# Altium integrated library Xilinx XC4000.IntLib: 294 symbols (part 21 of 21)
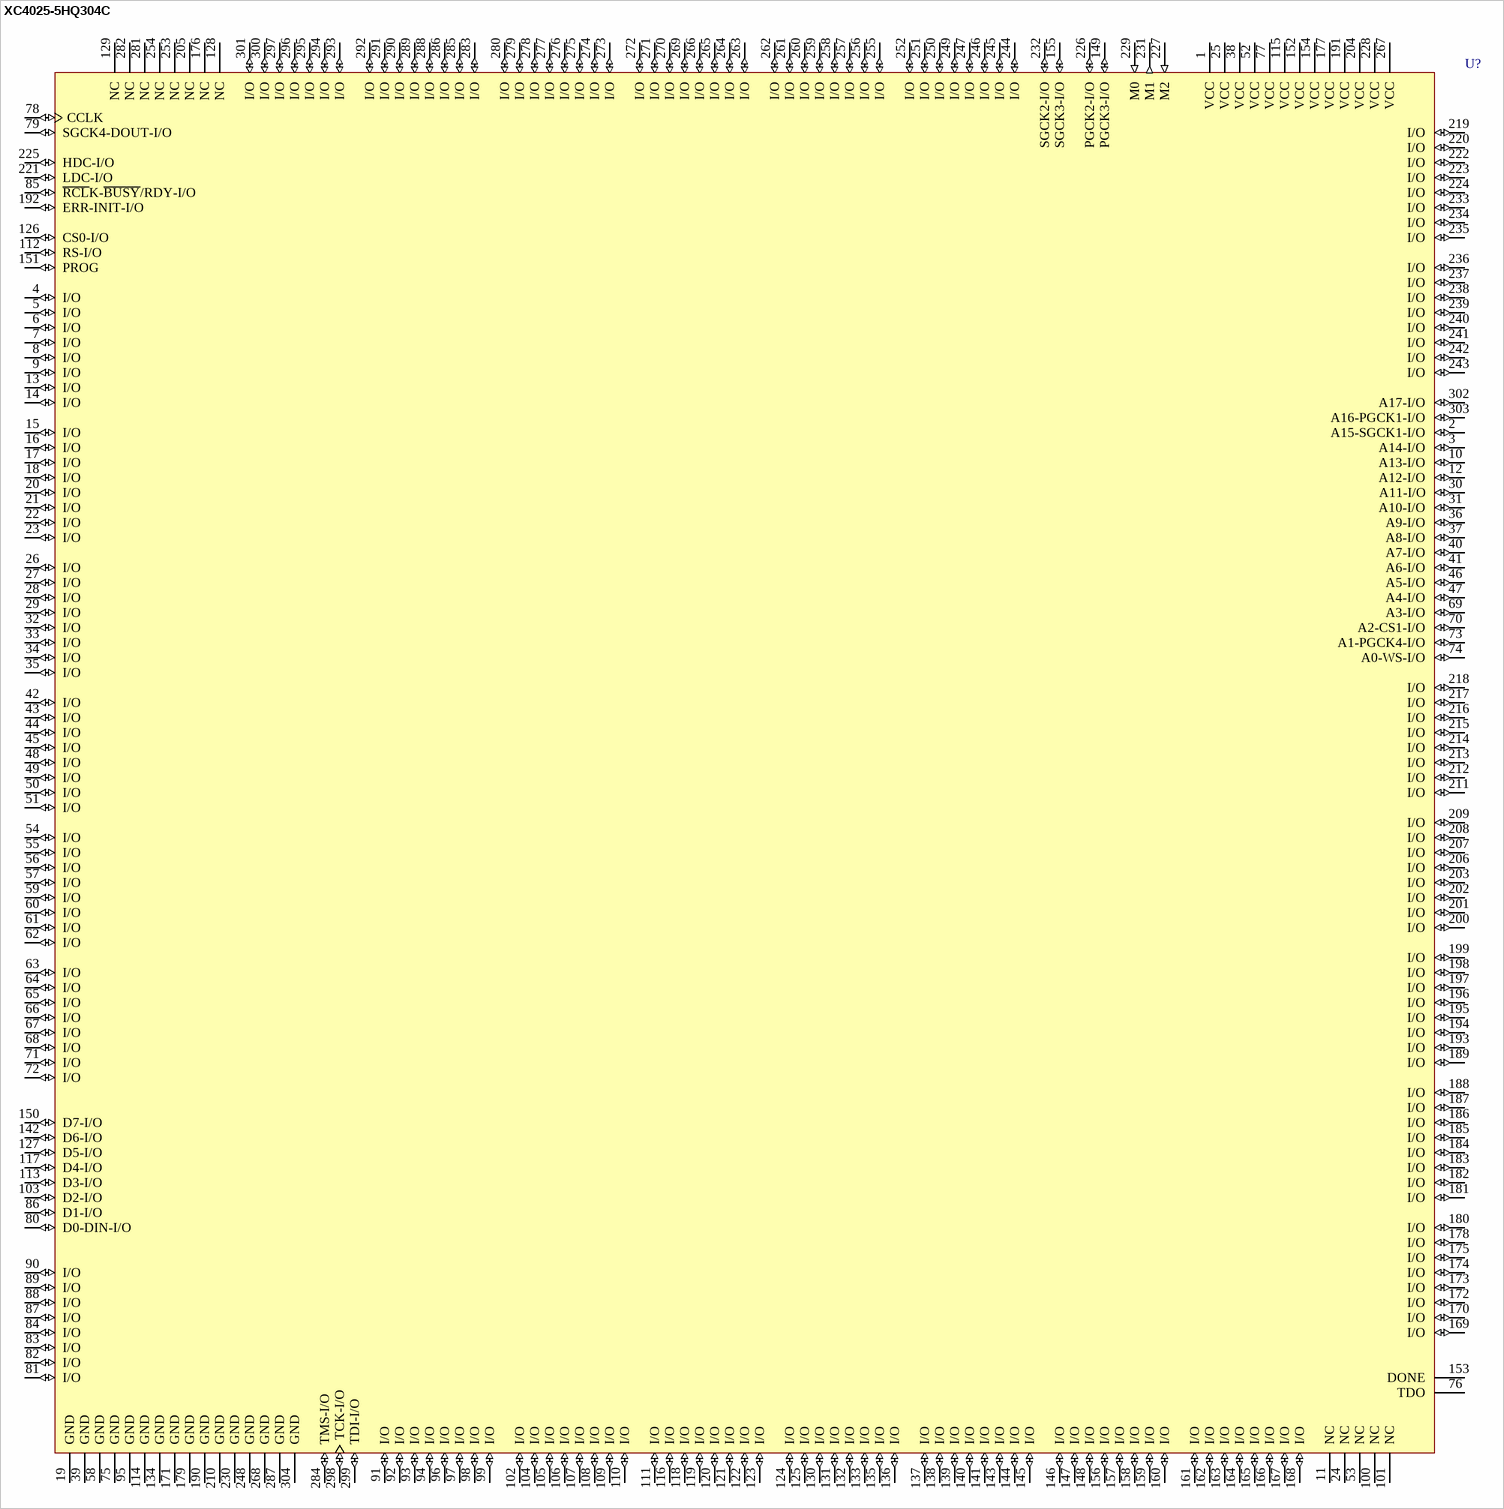
[diagram p249: symbol XC4025-5HQ304C]

## XC4025-5HQ304C
designator U?
Logic Cell Array, with 255 I/O Pins, 304-Pin HQFP, Commercial Grade; ComponentAvailability: Not for New Design; Published: 8-Jun-2000; LatestRevisionDate: 13-Apr-2006; LatestRevisionNote: IPC-7351 Footprint Added.; DatasheetVersion: 1994; PackageVersion: ver1.1, Oct-2002; PackageReference: HQ304; Publisher: Altium Limited; PackageDescription: 304-Pin Heat Sink Quad Flat Pack (HQ304); Code_JEDEC: MO-143-JA; ComponentLink1Description: Manufacturer Link; ComponentLink1URL: http://www.xilinx.com/; ComponentLink2Description: Datasheet; ComponentLink2URL: http://direct.xilinx.com/bvdocs/publications/4000.pdf
footprint HQ304_N (Shrink QFP, 304-Leads, Body 40x40mm, Pitch 0.5mm, IPC Medium Density)
footprint HQ304_L (Shrink QFP, 304-Leads, Body 40x40mm, Pitch 0.5mm, IPC High Density)
footprint HQ304_M (Shrink QFP, 304-Leads, Body 40x40mm, Pitch 0.5mm, IPC Low Density)
3D model XC4025-HQ304 (304-Pin Heat Sink Quad Flat Pack (HQ304))
pins: 1 VCC (power), 2 A15-SGCK1-I/O (io), 3 A14-I/O (io), 4 I/O (io), 5 I/O (io), 6 I/O (io), 7 I/O (io), 8 I/O (io), 9 I/O (io), 10 A13-I/O (io), 11 NC, 12 A12-I/O (io), 13 I/O (io), 14 I/O (io), 15 I/O (io), 16 I/O (io), 17 I/O (io), 18 I/O (io), 19 GND (power), 20 I/O (io), 21 I/O (io), 22 I/O (io), 23 I/O (io), 24 NC, 25 VCC (power), 26 I/O (io), 27 I/O (io), 28 I/O (io), 29 I/O (io), 30 A11-I/O (io), 31 A10-I/O (io), 32 I/O (io), 33 I/O (io), 34 I/O (io), 35 I/O (io), 36 A9-I/O (io), 37 A8-I/O (io), 38 VCC (power), 39 GND (power), 40 A7-I/O (io), 41 A6-I/O (io), 42 I/O (io), 43 I/O (io), 44 I/O (io), 45 I/O (io), 46 A5-I/O (io), 47 A4-I/O (io), 48 I/O (io), 49 I/O (io), 50 I/O (io), 51 I/O (io), 52 VCC (power), 53 NC, 54 I/O (io), 55 I/O (io), 56 I/O (io), 57 I/O (io), 58 GND (power), 59 I/O (io), 60 I/O (io), 61 I/O (io), 62 I/O (io), 63 I/O (io), 64 I/O (io), 65 I/O (io), 66 I/O (io), 67 I/O (io), 68 I/O (io), 69 A3-I/O (io), 70 A2-CS1-I/O (io), 71 I/O (io), 72 I/O (io), 73 A1-PGCK4-I/O (io), 74 A0-WS-I/O (io), 75 GND (power), 76 TDO, 77 VCC (power), 78 CCLK (io), 79 SGCK4-DOUT-I/O (io), 80 D0-DIN-I/O (io), 81 I/O (io), 82 I/O (io), 83 I/O (io), 84 I/O (io), 85 ~{RCL}K-~{BUSY}/RDY-I/O (io), 86 D1-I/O (io), 87 I/O (io), 88 I/O (io), 89 I/O (io), 90 I/O (io), 91 I/O (io), 92 I/O (io), 93 I/O (io), 94 I/O (io), 95 GND (power), 96 I/O (io), 97 I/O (io), 98 I/O (io), 99 I/O (io), 100 NC, 101 NC, 102 I/O (io), 103 D2-I/O (io), 104 I/O (io), 105 I/O (io), 106 I/O (io), 107 I/O (io), 108 I/O (io), 109 I/O (io), 110 I/O (io), 111 I/O (io), 112 RS-I/O (io), 113 D3-I/O (io), 114 GND (power), 115 VCC (power), 116 I/O (io), 117 D4-I/O (io), 118 I/O (io), 119 I/O (io), 120 I/O (io), 121 I/O (io), 122 I/O (io), 123 I/O (io), 124 I/O (io), 125 I/O (io), 126 CS0-I/O (io), 127 D5-I/O (io), 128 NC, 129 NC, 130 I/O (io), 131 I/O (io), 132 I/O (io), 133 I/O (io), 134 GND (power), 135 I/O (io), 136 I/O (io), 137 I/O (io), 138 I/O (io), 139 I/O (io), 140 I/O (io), 141 I/O (io), 142 D6-I/O (io), 143 I/O (io), 144 I/O (io), 145 I/O (io), 146 I/O (io), 147 I/O (io), 148 I/O (io), 149 PGCK3-I/O (io), 150 D7-I/O (io), 151 PROG (io), 152 VCC (power), 153 DONE, 154 VCC (power), 155 SGCK3-I/O (io), 156 I/O (io), 157 I/O (io), 158 I/O (io), 159 I/O (io), 160 I/O (io), 161 I/O (io), 162 I/O (io), 163 I/O (io), 164 I/O (io), 165 I/O (io), 166 I/O (io), 167 I/O (io), 168 I/O (io), 169 I/O (io), 170 I/O (io), 171 GND (power), 172 I/O (io), 173 I/O (io), 174 I/O (io), 175 I/O (io), 176 NC, 177 VCC (power), 178 I/O (io), 179 GND (power), 180 I/O (io), 181 I/O (io), 182 I/O (io), 183 I/O (io), 184 I/O (io), 185 I/O (io), 186 I/O (io), 187 I/O (io), 188 I/O (io), 189 I/O (io), 190 GND (power), 191 VCC (power), 192 ERR-INIT-I/O (io), 193 I/O (io), 194 I/O (io), 195 I/O (io), 196 I/O (io), 197 I/O (io), 198 I/O (io), 199 I/O (io), 200 I/O (io), 201 I/O (io), 202 I/O (io), 203 I/O (io), 204 VCC (power), 205 NC, 206 I/O (io), 207 I/O (io), 208 I/O (io), 209 I/O (io), 210 GND (power), 211 I/O (io), 212 I/O (io), 213 I/O (io), 214 I/O (io), 215 I/O (io), 216 I/O (io), 217 I/O (io), 218 I/O (io), 219 I/O (io), 220 I/O (io), 221 LDC-I/O (io), 222 I/O (io), 223 I/O (io), 224 I/O (io), 225 HDC-I/O (io), 226 PGCK2-I/O (io), 227 M2 (in), 228 VCC (power), 229 M0 (in), 230 GND (power), 231 M1 (out), 232 SGCK2-I/O (io), 233 I/O (io), 234 I/O (io), 235 I/O (io), 236 I/O (io), 237 I/O (io), 238 I/O (io), 239 I/O (io), 240 I/O (io), 241 I/O (io), 242 I/O (io), 243 I/O (io), 244 I/O (io), 245 I/O (io), 246 I/O (io), 247 I/O (io), 248 GND (power), 249 I/O (io), 250 I/O (io), 251 I/O (io), 252 I/O (io), 253 NC, 254 NC, 255 I/O (io), 256 I/O (io), 257 I/O (io), 258 I/O (io), 259 I/O (io), 260 I/O (io), 261 I/O (io), 262 I/O (io), 263 I/O (io), 264 I/O (io), 265 I/O (io), 266 I/O (io), 267 VCC (power), 268 GND (power), 269 I/O (io), 270 I/O (io), 271 I/O (io), 272 I/O (io), 273 I/O (io), 274 I/O (io), 275 I/O (io), 276 I/O (io), 277 I/O (io), 278 I/O (io), 279 I/O (io), 280 I/O (io), 281 NC, 282 NC, 283 I/O (io), 284 TMS-I/O (io), 285 I/O (io), 286 I/O (io), 287 GND (power), 288 I/O (io), 289 I/O (io), 290 I/O (io), 291 I/O (io), 292 I/O (io), 293 I/O (io), 294 I/O (io), 295 I/O (io), 296 I/O (io), 297 I/O (io), 298 TCK-I/O (io), 299 TDI-I/O (io), 300 I/O (io), 301 I/O (io), 302 A17-I/O (io), 303 A16-PGCK1-I/O (io), 304 GND (power)

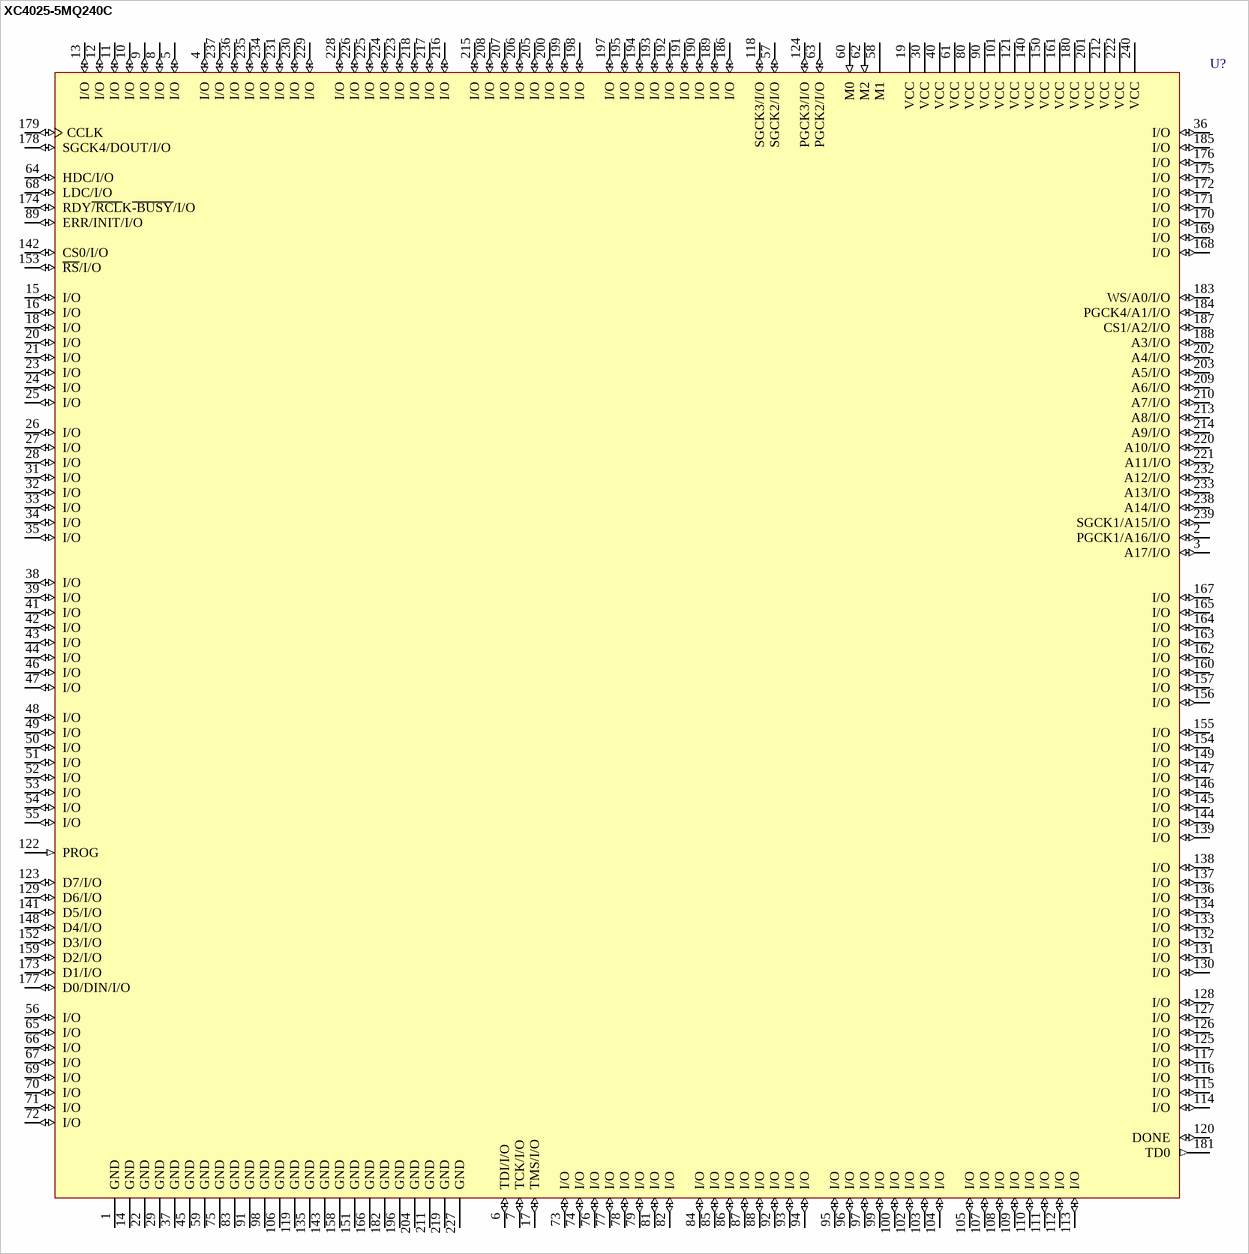
[diagram p221: symbol XC4025-5MQ240C]

## XC4025-5MQ240C
designator U?
Logic Cell Array, with 193 I/O Pins, 240-Pin MQFP, Commercial Grade; ComponentAvailability: Not for New Design; Published: 8-Jun-2000; LatestRevisionDate: 13-Apr-2006; LatestRevisionNote: IPC-7351 Footprint Added.; DatasheetVersion: 1994; PackageVersion: 1994; PackageReference: MQ240; Publisher: Altium Limited; PackageDescription: 240-Pin Metal Quad Flat Pack (MQ240); ComponentLink1Description: Manufacturer Link; ComponentLink1URL: http://www.xilinx.com/; ComponentLink2Description: Datasheet; ComponentLink2URL: http://direct.xilinx.com/bvdocs/publications/4000.pdf
footprint MQ240_N (Shrink QFP, 240-Leads, Body 31.6x31.6mm, Pitch 0.5mm, IPC Medium Density)
footprint MQ240_L (Shrink QFP, 240-Leads, Body 31.6x31.6mm, Pitch 0.5mm, IPC High Density)
footprint MQ240_M (Shrink QFP, 240-Leads, Body 31.6x31.6mm, Pitch 0.5mm, IPC Low Density)
3D model XC4025-MQ240 (240-Pin Metal Quad Flat Pack (MQ240))
pins: 1 GND (power), 2 PGCK1/A16/I/O (io), 3 A17/I/O (io), 4 I/O (io), 5 I/O (io), 6 TDI/I/O (io), 7 TCK/I/O (io), 8 I/O (io), 9 I/O (io), 10 I/O (io), 11 I/O (io), 12 I/O (io), 13 I/O (io), 14 GND (power), 15 I/O (io), 16 I/O (io), 17 TMS/I/O (io), 18 I/O (io), 19 VCC (power), 20 I/O (io), 21 I/O (io), 22 GND (power), 23 I/O (io), 24 I/O (io), 25 I/O (io), 26 I/O (io), 27 I/O (io), 28 I/O (io), 29 GND (power), 30 VCC (power), 31 I/O (io), 32 I/O (io), 33 I/O (io), 34 I/O (io), 35 I/O (io), 36 I/O (io), 37 GND (power), 38 I/O (io), 39 I/O (io), 40 VCC (power), 41 I/O (io), 42 I/O (io), 43 I/O (io), 44 I/O (io), 45 GND (power), 46 I/O (io), 47 I/O (io), 48 I/O (io), 49 I/O (io), 50 I/O (io), 51 I/O (io), 52 I/O (io), 53 I/O (io), 54 I/O (io), 55 I/O (io), 56 I/O (io), 57 SGCK2/I/O (io), 58 M1 (hiz), 59 GND (power), 60 M0 (in), 61 VCC (power), 62 M2 (in), 63 PGCK2/I/O (io), 64 HDC/I/O (io), 65 I/O (io), 66 I/O (io), 67 I/O (io), 68 LDC/I/O (io), 69 I/O (io), 70 I/O (io), 71 I/O (io), 72 I/O (io), 73 I/O (io), 74 I/O (io), 75 GND (power), 76 I/O (io), 77 I/O (io), 78 I/O (io), 79 I/O (io), 80 VCC (power), 81 I/O (io), 82 I/O (io), 83 GND (power), 84 I/O (io), 85 I/O (io), 86 I/O (io), 87 I/O (io), 88 I/O (io), 89 ERR/INIT/I/O (io), 90 VCC (power), 91 GND (power), 92 I/O (io), 93 I/O (io), 94 I/O (io), 95 I/O (io), 96 I/O (io), 97 I/O (io), 98 GND (power), 99 I/O (io), 100 I/O (io), 101 VCC (power), 102 I/O (io), 103 I/O (io), 104 I/O (io), 105 I/O (io), 106 GND (power), 107 I/O (io), 108 I/O (io), 109 I/O (io), 110 I/O (io), 111 I/O (io), 112 I/O (io), 113 I/O (io), 114 I/O (io), 115 I/O (io), 116 I/O (io), 117 I/O (io), 118 SGCK3/I/O (io), 119 GND (power), 120 DONE (io), 121 VCC (power), 122 PROG (in), 123 D7/I/O (io), 124 PGCK3/I/O (io), 125 I/O (io), 126 I/O (io), 127 I/O (io), 128 I/O (io), 129 D6/I/O (io), 130 I/O (io), 131 I/O (io), 132 I/O (io), 133 I/O (io), 134 I/O (io), 135 GND (power), 136 I/O (io), 137 I/O (io), 138 I/O (io), 139 I/O (io), 140 VCC (power), 141 D5/I/O (io), 142 CS0/I/O (io), 143 GND (power), 144 I/O (io), 145 I/O (io), 146 I/O (io), 147 I/O (io), 148 D4/I/O (io), 149 I/O (io), 150 VCC (power), 151 GND (power), 152 D3/I/O (io), 153 ~{RS}/I/O (io), 154 I/O (io), 155 I/O (io), 156 I/O (io), 157 I/O (io), 158 GND (power), 159 D2/I/O (io), 160 I/O (io), 161 VCC (power), 162 I/O (io), 163 I/O (io), 164 I/O (io), 165 I/O (io), 166 GND (power), 167 I/O (io), 168 I/O (io), 169 I/O (io), 170 I/O (io), 171 I/O (io), 172 I/O (io), 173 D1/I/O (io), 174 RDY~{/RCL}K~{-BUSY}/I/O (io), 175 I/O (io), 176 I/O (io), 177 D0/DIN/I/O (io), 178 SGCK4/DOUT/I/O (io), 179 CCLK (io), 180 VCC (power), 181 TD0 (out), 182 GND (power), 183 WS/A0/I/O (io), 184 PGCK4/A1/I/O (io), 185 I/O (io), 186 I/O (io), 187 CS1/A2/I/O (io), 188 A3/I/O (io), 189 I/O (io), 190 I/O (io), 191 I/O (io), 192 I/O (io), 193 I/O (io), 194 I/O (io), 195 I/O (io), 196 GND (power), 197 I/O (io), 198 I/O (io), 199 I/O (io), 200 I/O (io), 201 VCC (power), 202 A4/I/O (io), 203 A5/I/O (io), 204 GND (power), 205 I/O (io), 206 I/O (io), 207 I/O (io), 208 I/O (io), 209 A6/I/O (io), 210 A7/I/O (io), 211 GND (power), 212 VCC (power), 213 A8/I/O (io), 214 A9/I/O (io), 215 I/O (io), 216 I/O (io), 217 I/O (io), 218 I/O (io), 219 GND (power), 220 A10/I/O (io), 221 A11/I/O (io), 222 VCC (power), 223 I/O (io), 224 I/O (io), 225 I/O (io), 226 I/O (io), 227 GND (power), 228 I/O (io), 229 I/O (io), 230 I/O (io), 231 I/O (io), 232 A12/I/O (io), 233 A13/I/O (io), 234 I/O (io), 235 I/O (io), 236 I/O (io), 237 I/O (io), 238 A14/I/O (io), 239 SGCK1/A15/I/O (io), 240 VCC (power)

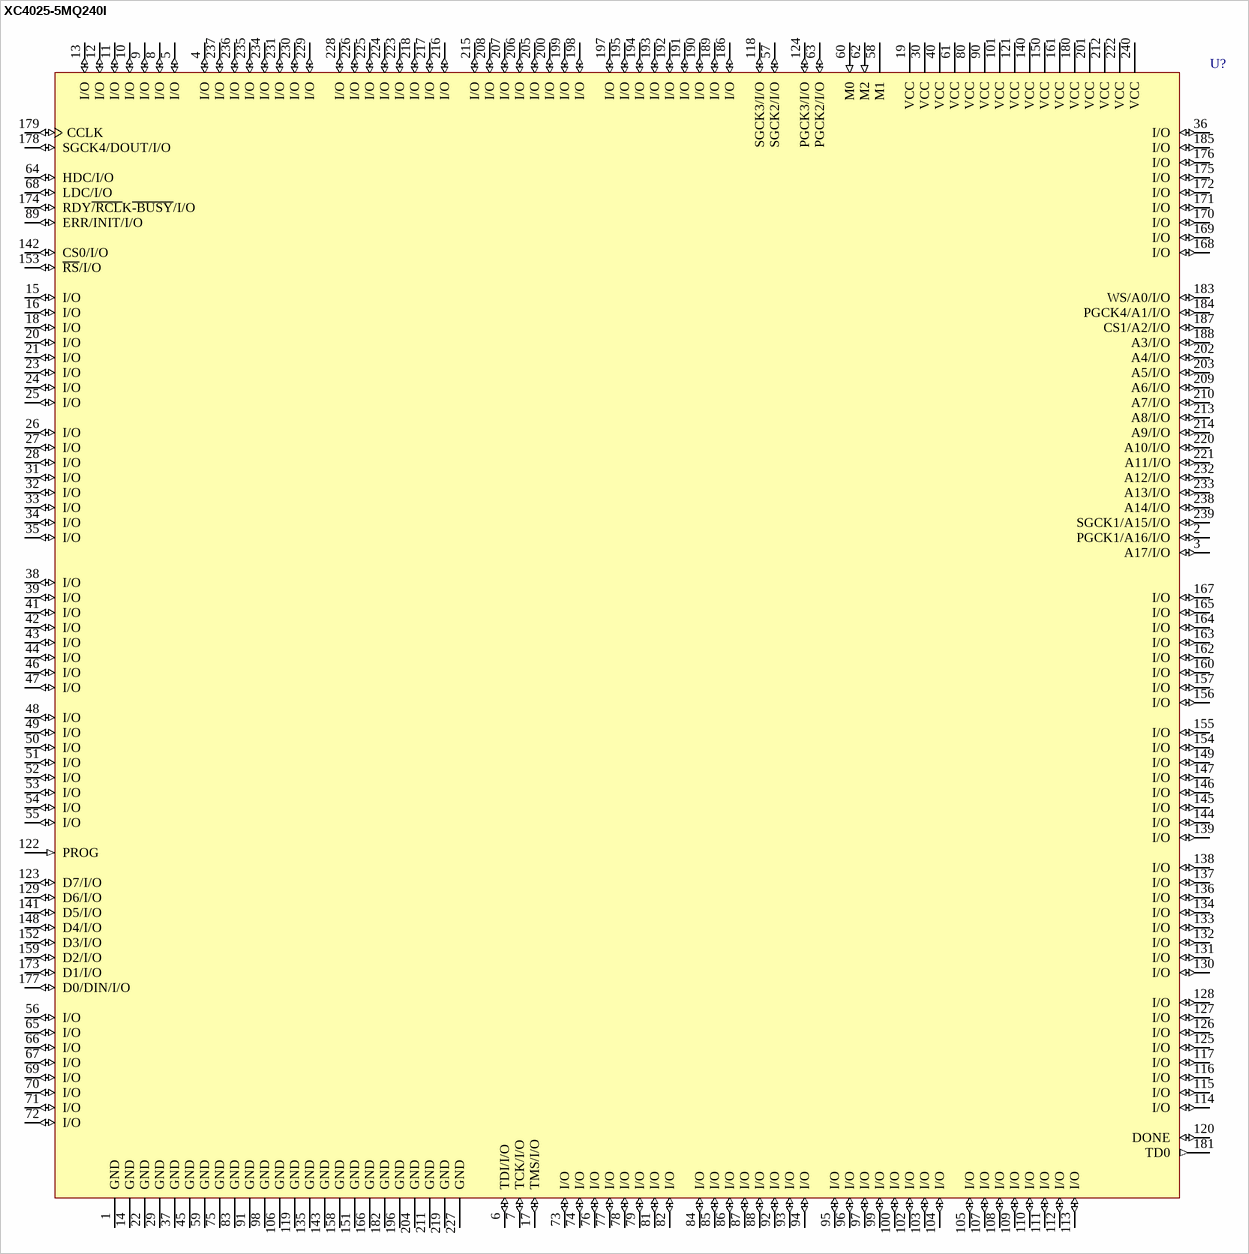
[diagram p222: symbol XC4025-5MQ240I]

## XC4025-5MQ240I
designator U?
Logic Cell Array, with 193 I/O Pins, 240-Pin MQFP, Industrial Grade; ComponentAvailability: Not for New Design; Published: 8-Jun-2000; LatestRevisionDate: 13-Apr-2006; LatestRevisionNote: IPC-7351 Footprint Added.; DatasheetVersion: 1994; PackageVersion: 1994; PackageReference: MQ240; Publisher: Altium Limited; PackageDescription: 240-Pin Metal Quad Flat Pack (MQ240); ComponentLink1Description: Manufacturer Link; ComponentLink1URL: http://www.xilinx.com/; ComponentLink2Description: Datasheet; ComponentLink2URL: http://direct.xilinx.com/bvdocs/publications/4000.pdf
footprint MQ240_N (Shrink QFP, 240-Leads, Body 31.6x31.6mm, Pitch 0.5mm, IPC Medium Density)
footprint MQ240_L (Shrink QFP, 240-Leads, Body 31.6x31.6mm, Pitch 0.5mm, IPC High Density)
footprint MQ240_M (Shrink QFP, 240-Leads, Body 31.6x31.6mm, Pitch 0.5mm, IPC Low Density)
3D model XC4025-MQ240 (240-Pin Metal Quad Flat Pack (MQ240))
pins: 1 GND (power), 2 PGCK1/A16/I/O (io), 3 A17/I/O (io), 4 I/O (io), 5 I/O (io), 6 TDI/I/O (io), 7 TCK/I/O (io), 8 I/O (io), 9 I/O (io), 10 I/O (io), 11 I/O (io), 12 I/O (io), 13 I/O (io), 14 GND (power), 15 I/O (io), 16 I/O (io), 17 TMS/I/O (io), 18 I/O (io), 19 VCC (power), 20 I/O (io), 21 I/O (io), 22 GND (power), 23 I/O (io), 24 I/O (io), 25 I/O (io), 26 I/O (io), 27 I/O (io), 28 I/O (io), 29 GND (power), 30 VCC (power), 31 I/O (io), 32 I/O (io), 33 I/O (io), 34 I/O (io), 35 I/O (io), 36 I/O (io), 37 GND (power), 38 I/O (io), 39 I/O (io), 40 VCC (power), 41 I/O (io), 42 I/O (io), 43 I/O (io), 44 I/O (io), 45 GND (power), 46 I/O (io), 47 I/O (io), 48 I/O (io), 49 I/O (io), 50 I/O (io), 51 I/O (io), 52 I/O (io), 53 I/O (io), 54 I/O (io), 55 I/O (io), 56 I/O (io), 57 SGCK2/I/O (io), 58 M1 (hiz), 59 GND (power), 60 M0 (in), 61 VCC (power), 62 M2 (in), 63 PGCK2/I/O (io), 64 HDC/I/O (io), 65 I/O (io), 66 I/O (io), 67 I/O (io), 68 LDC/I/O (io), 69 I/O (io), 70 I/O (io), 71 I/O (io), 72 I/O (io), 73 I/O (io), 74 I/O (io), 75 GND (power), 76 I/O (io), 77 I/O (io), 78 I/O (io), 79 I/O (io), 80 VCC (power), 81 I/O (io), 82 I/O (io), 83 GND (power), 84 I/O (io), 85 I/O (io), 86 I/O (io), 87 I/O (io), 88 I/O (io), 89 ERR/INIT/I/O (io), 90 VCC (power), 91 GND (power), 92 I/O (io), 93 I/O (io), 94 I/O (io), 95 I/O (io), 96 I/O (io), 97 I/O (io), 98 GND (power), 99 I/O (io), 100 I/O (io), 101 VCC (power), 102 I/O (io), 103 I/O (io), 104 I/O (io), 105 I/O (io), 106 GND (power), 107 I/O (io), 108 I/O (io), 109 I/O (io), 110 I/O (io), 111 I/O (io), 112 I/O (io), 113 I/O (io), 114 I/O (io), 115 I/O (io), 116 I/O (io), 117 I/O (io), 118 SGCK3/I/O (io), 119 GND (power), 120 DONE (io), 121 VCC (power), 122 PROG (in), 123 D7/I/O (io), 124 PGCK3/I/O (io), 125 I/O (io), 126 I/O (io), 127 I/O (io), 128 I/O (io), 129 D6/I/O (io), 130 I/O (io), 131 I/O (io), 132 I/O (io), 133 I/O (io), 134 I/O (io), 135 GND (power), 136 I/O (io), 137 I/O (io), 138 I/O (io), 139 I/O (io), 140 VCC (power), 141 D5/I/O (io), 142 CS0/I/O (io), 143 GND (power), 144 I/O (io), 145 I/O (io), 146 I/O (io), 147 I/O (io), 148 D4/I/O (io), 149 I/O (io), 150 VCC (power), 151 GND (power), 152 D3/I/O (io), 153 ~{RS}/I/O (io), 154 I/O (io), 155 I/O (io), 156 I/O (io), 157 I/O (io), 158 GND (power), 159 D2/I/O (io), 160 I/O (io), 161 VCC (power), 162 I/O (io), 163 I/O (io), 164 I/O (io), 165 I/O (io), 166 GND (power), 167 I/O (io), 168 I/O (io), 169 I/O (io), 170 I/O (io), 171 I/O (io), 172 I/O (io), 173 D1/I/O (io), 174 RDY~{/RCL}K~{-BUSY}/I/O (io), 175 I/O (io), 176 I/O (io), 177 D0/DIN/I/O (io), 178 SGCK4/DOUT/I/O (io), 179 CCLK (io), 180 VCC (power), 181 TD0 (out), 182 GND (power), 183 WS/A0/I/O (io), 184 PGCK4/A1/I/O (io), 185 I/O (io), 186 I/O (io), 187 CS1/A2/I/O (io), 188 A3/I/O (io), 189 I/O (io), 190 I/O (io), 191 I/O (io), 192 I/O (io), 193 I/O (io), 194 I/O (io), 195 I/O (io), 196 GND (power), 197 I/O (io), 198 I/O (io), 199 I/O (io), 200 I/O (io), 201 VCC (power), 202 A4/I/O (io), 203 A5/I/O (io), 204 GND (power), 205 I/O (io), 206 I/O (io), 207 I/O (io), 208 I/O (io), 209 A6/I/O (io), 210 A7/I/O (io), 211 GND (power), 212 VCC (power), 213 A8/I/O (io), 214 A9/I/O (io), 215 I/O (io), 216 I/O (io), 217 I/O (io), 218 I/O (io), 219 GND (power), 220 A10/I/O (io), 221 A11/I/O (io), 222 VCC (power), 223 I/O (io), 224 I/O (io), 225 I/O (io), 226 I/O (io), 227 GND (power), 228 I/O (io), 229 I/O (io), 230 I/O (io), 231 I/O (io), 232 A12/I/O (io), 233 A13/I/O (io), 234 I/O (io), 235 I/O (io), 236 I/O (io), 237 I/O (io), 238 A14/I/O (io), 239 SGCK1/A15/I/O (io), 240 VCC (power)

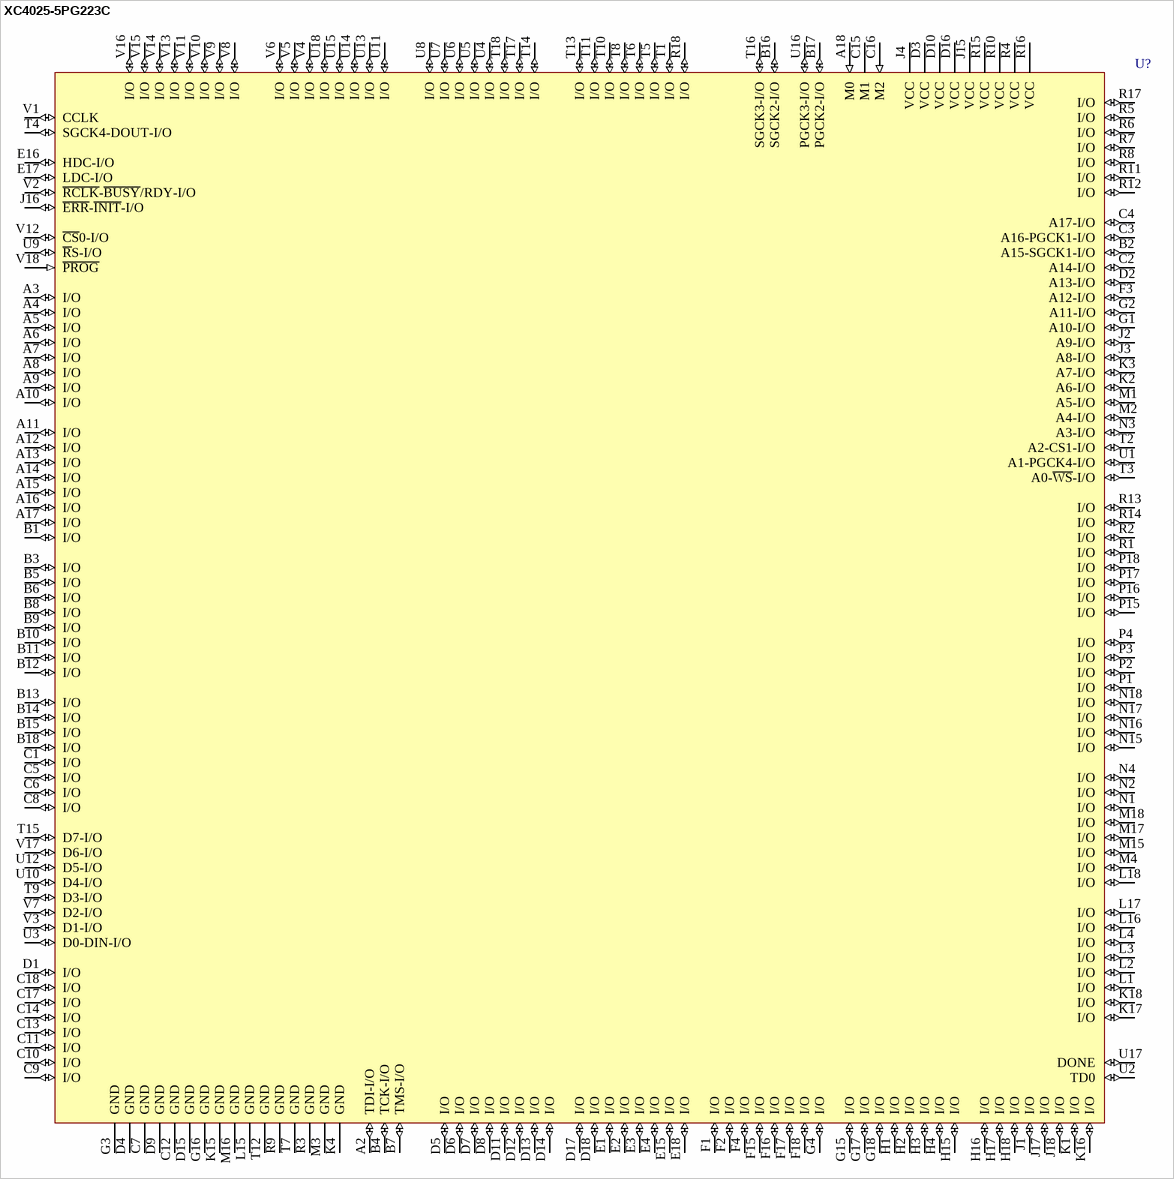
[diagram p223: symbol XC4025-5PG223C]

## XC4025-5PG223C
designator U?
Logic Cell Array, with 192 I/O Pins, 223-Pin PGA, Commercial Grade; ComponentAvailability: Not for New Design; Published: 8-Jun-2000; LatestRevisionDate: 04-Mar-2005; LatestRevisionNote: Stylized 3D Model Added.; DatasheetVersion: 1994; PackageVersion: ver1.0, Jun-2000; PackageReference: PG223; Publisher: Altium Limited; PackageDescription: 223-Pin Ceramic Pin Grid Array (PG223); ComponentLink1Description: Manufacturer Link; ComponentLink1URL: http://www.xilinx.com/; ComponentLink2Description: Datasheet; ComponentLink2URL: http://direct.xilinx.com/bvdocs/publications/4000.pdf
footprint PG223 (PGA, 223-Leads, Body 47x47mm, Pitch 2.54mm)
3D model XC4025-PG223 (223-Pin Ceramic Pin Grid Array (PG223))
pins: A2 TDI-I/O (io), A3 I/O (io), A4 I/O (io), A5 I/O (io), A6 I/O (io), A7 I/O (io), A8 I/O (io), A9 I/O (io), A10 I/O (io), A11 I/O (io), A12 I/O (io), A13 I/O (io), A14 I/O (io), A15 I/O (io), A16 I/O (io), A17 I/O (io), A18 M0 (in), B1 I/O (io), B2 A15-SGCK1-I/O (io), B3 I/O (io), B4 TCK-I/O (io), B5 I/O (io), B6 I/O (io), B7 TMS-I/O (io), B8 I/O (io), B9 I/O (io), B10 I/O (io), B11 I/O (io), B12 I/O (io), B13 I/O (io), B14 I/O (io), B15 I/O (io), B16 SGCK2-I/O (io), B17 PGCK2-I/O (io), B18 I/O (io), C1 I/O (io), C2 A14-I/O (io), C3 A16-PGCK1-I/O (io), C4 A17-I/O (io), C5 I/O (io), C6 I/O (io), C7 GND (power), C8 I/O (io), C9 I/O (io), C10 I/O (io), C11 I/O (io), C12 GND (power), C13 I/O (io), C14 I/O (io), C15 M1 (hiz), C16 M2 (in), C17 I/O (io), C18 I/O (io), D1 I/O (io), D2 A13-I/O (io), D3 VCC (power), D4 GND (power), D5 I/O (io), D6 I/O (io), D7 I/O (io), D8 I/O (io), D9 GND (power), D10 VCC (power), D11 I/O (io), D12 I/O (io), D13 I/O (io), D14 I/O (io), D15 GND (power), D16 VCC (power), D17 I/O (io), D18 I/O (io), E1 I/O (io), E2 I/O (io), E3 I/O (io), E4 I/O (io), E15 I/O (io), E16 HDC-I/O (io), E17 LDC-I/O (io), E18 I/O (io), F1 I/O (io), F2 I/O (io), F3 A12-I/O (io), F4 I/O (io), F15 I/O (io), F16 I/O (io), F17 I/O (io), F18 I/O (io), G1 A10-I/O (io), G2 A11-I/O (io), G3 GND (power), G4 I/O (io), G15 I/O (io), G16 GND (power), G17 I/O (io), G18 I/O (io), H1 I/O (io), H2 I/O (io), H3 I/O (io), H4 I/O (io), H15 I/O (io), H16 I/O (io), H17 I/O (io), H18 I/O (io), J1 I/O (io), J2 A9-I/O (io), J3 A8-I/O (io), J4 VCC (power), J15 VCC (power), J16 ~{ERR}-~{INIT}-I/O (io), J17 I/O (io), J18 I/O (io), K1 I/O (io), K2 A6-I/O (io), K3 A7-I/O (io), K4 GND (power), K15 GND (power), K16 I/O (io), K17 I/O (io), K18 I/O (io), L1 I/O (io), L2 I/O (io), L3 I/O (io), L4 I/O (io), L15 GND (power), L16 I/O (io), L17 I/O (io), L18 I/O (io), M1 A5-I/O (io), M2 A4-I/O (io), M3 GND (power), M4 I/O (io), M15 I/O (io), M16 GND (power), M17 I/O (io), M18 I/O (io), N1 I/O (io), N2 I/O (io), N3 A3-I/O (io), N4 I/O (io), N15 I/O (io), N16 I/O (io), N17 I/O (io), N18 I/O (io), P1 I/O (io), P2 I/O (io), P3 I/O (io), P4 I/O (io), P15 I/O (io), P16 I/O (io), P17 I/O (io), P18 I/O (io), R1 I/O (io), R2 I/O (io), R3 GND (power), R4 VCC (power), R5 I/O (io), R6 I/O (io), R7 I/O (io), R8 I/O (io), R9 GND (power), R10 VCC (power), R11 I/O (io), R12 I/O (io), R13 I/O (io), R14 I/O (io), R15 VCC (power), R16 VCC (power), R17 I/O (io), R18 I/O (io), T1 I/O (io), T2 A2-CS1-I/O (io), T3 A0-~{WS}-I/O (io), T4 SGCK4-DOUT-I/O (io), T5 I/O (io), T6 I/O (io), T7 GND (power), T8 I/O (io), T9 D3-I/O (io), T10 I/O (io), T11 I/O (io), T12 GND (power), T13 I/O (io), T14 I/O (io), T15 D7-I/O (io), T16 SGCK3-I/O (io), T17 I/O (io), T18 I/O (io), U1 A1-PGCK4-I/O (io), U2 TD0 (io), U3 D0-DIN-I/O (io), U4 I/O (io), U5 I/O (io), U6 I/O (io), U7 I/O (io), U8 I/O (io), U9 ~{R}S-I/O (io), U10 D4-I/O (io), U11 I/O (io), U12 D5-I/O (io), U13 I/O (io), U14 I/O (io), U15 I/O (io), U16 PGCK3-I/O (io), U17 DONE (io), U18 I/O (io), V1 CCLK (io), V2 ~{RCLK}-~{BUSY}/RDY-I/O (io), V3 D1-I/O (io), V4 I/O (io), V5 I/O (io), V6 I/O (io), V7 D2-I/O (io), V8 I/O (io), V9 I/O (io), V10 I/O (io), V11 I/O (io), V12 ~{CS}0-I/O (io), V13 I/O (io), V14 I/O (io), V15 I/O (io), V16 I/O (io), V17 D6-I/O (io), V18 ~{PROG} (in)

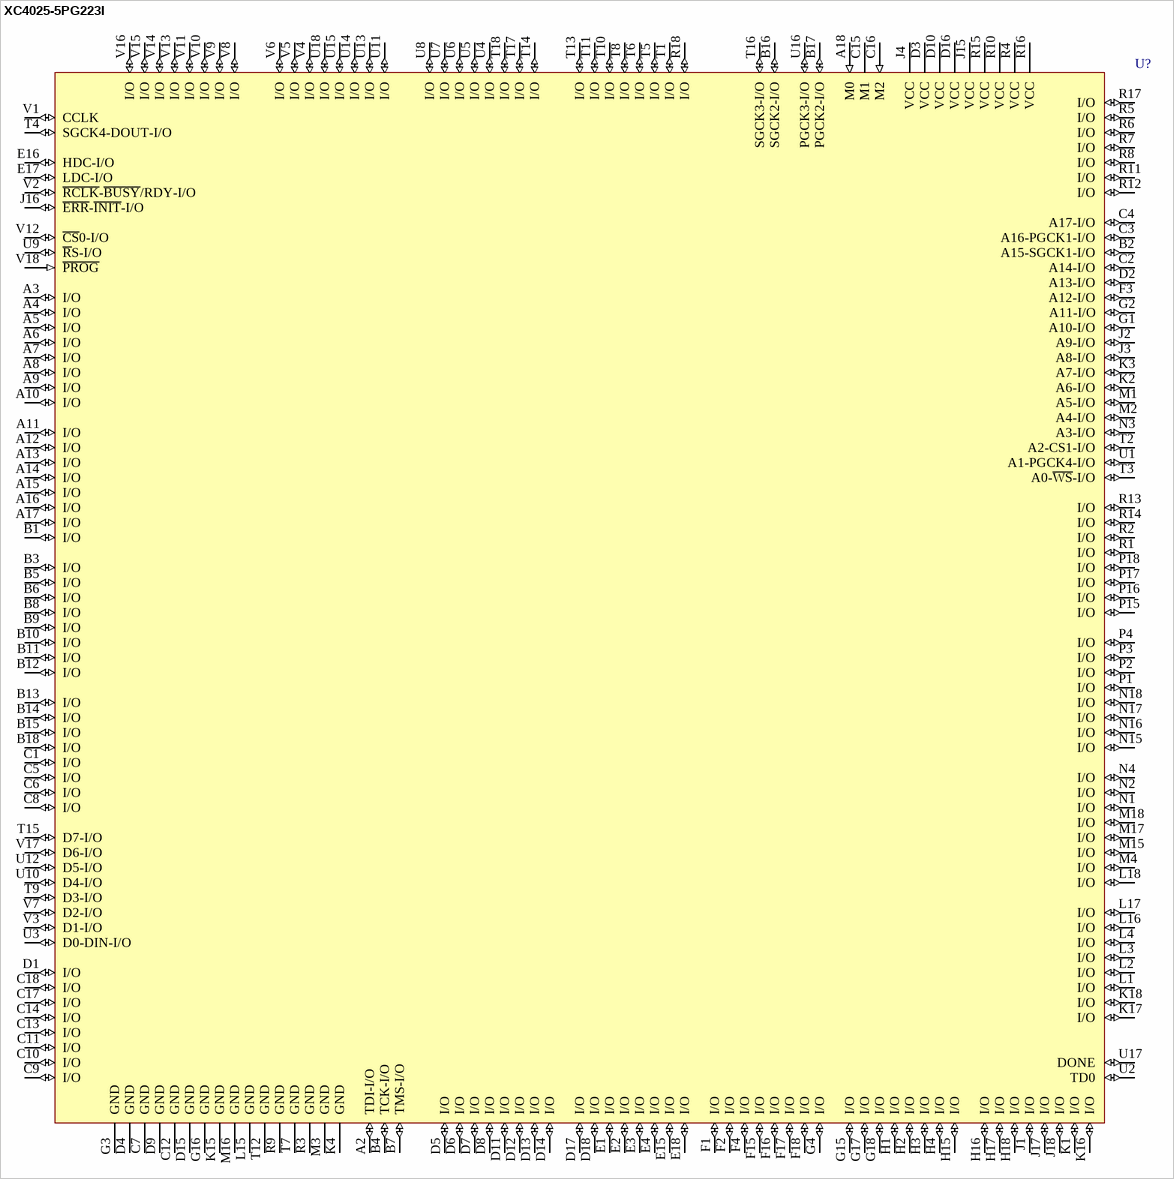
[diagram p224: symbol XC4025-5PG223I]

## XC4025-5PG223I
designator U?
Logic Cell Array, with 192 I/O Pins, 223-Pin PGA, Industrial Grade; ComponentAvailability: Not for New Design; Published: 8-Jun-2000; LatestRevisionDate: 04-Mar-2005; LatestRevisionNote: Stylized 3D Model Added.; DatasheetVersion: 1994; PackageVersion: ver1.0, Jun-2000; PackageReference: PG223; Publisher: Altium Limited; PackageDescription: 223-Pin Ceramic Pin Grid Array (PG223); ComponentLink1Description: Manufacturer Link; ComponentLink1URL: http://www.xilinx.com/; ComponentLink2Description: Datasheet; ComponentLink2URL: http://direct.xilinx.com/bvdocs/publications/4000.pdf
footprint PG223 (PGA, 223-Leads, Body 47x47mm, Pitch 2.54mm)
3D model XC4025-PG223 (223-Pin Ceramic Pin Grid Array (PG223))
pins: A2 TDI-I/O (io), A3 I/O (io), A4 I/O (io), A5 I/O (io), A6 I/O (io), A7 I/O (io), A8 I/O (io), A9 I/O (io), A10 I/O (io), A11 I/O (io), A12 I/O (io), A13 I/O (io), A14 I/O (io), A15 I/O (io), A16 I/O (io), A17 I/O (io), A18 M0 (in), B1 I/O (io), B2 A15-SGCK1-I/O (io), B3 I/O (io), B4 TCK-I/O (io), B5 I/O (io), B6 I/O (io), B7 TMS-I/O (io), B8 I/O (io), B9 I/O (io), B10 I/O (io), B11 I/O (io), B12 I/O (io), B13 I/O (io), B14 I/O (io), B15 I/O (io), B16 SGCK2-I/O (io), B17 PGCK2-I/O (io), B18 I/O (io), C1 I/O (io), C2 A14-I/O (io), C3 A16-PGCK1-I/O (io), C4 A17-I/O (io), C5 I/O (io), C6 I/O (io), C7 GND (power), C8 I/O (io), C9 I/O (io), C10 I/O (io), C11 I/O (io), C12 GND (power), C13 I/O (io), C14 I/O (io), C15 M1 (hiz), C16 M2 (in), C17 I/O (io), C18 I/O (io), D1 I/O (io), D2 A13-I/O (io), D3 VCC (power), D4 GND (power), D5 I/O (io), D6 I/O (io), D7 I/O (io), D8 I/O (io), D9 GND (power), D10 VCC (power), D11 I/O (io), D12 I/O (io), D13 I/O (io), D14 I/O (io), D15 GND (power), D16 VCC (power), D17 I/O (io), D18 I/O (io), E1 I/O (io), E2 I/O (io), E3 I/O (io), E4 I/O (io), E15 I/O (io), E16 HDC-I/O (io), E17 LDC-I/O (io), E18 I/O (io), F1 I/O (io), F2 I/O (io), F3 A12-I/O (io), F4 I/O (io), F15 I/O (io), F16 I/O (io), F17 I/O (io), F18 I/O (io), G1 A10-I/O (io), G2 A11-I/O (io), G3 GND (power), G4 I/O (io), G15 I/O (io), G16 GND (power), G17 I/O (io), G18 I/O (io), H1 I/O (io), H2 I/O (io), H3 I/O (io), H4 I/O (io), H15 I/O (io), H16 I/O (io), H17 I/O (io), H18 I/O (io), J1 I/O (io), J2 A9-I/O (io), J3 A8-I/O (io), J4 VCC (power), J15 VCC (power), J16 ~{ERR}-~{INIT}-I/O (io), J17 I/O (io), J18 I/O (io), K1 I/O (io), K2 A6-I/O (io), K3 A7-I/O (io), K4 GND (power), K15 GND (power), K16 I/O (io), K17 I/O (io), K18 I/O (io), L1 I/O (io), L2 I/O (io), L3 I/O (io), L4 I/O (io), L15 GND (power), L16 I/O (io), L17 I/O (io), L18 I/O (io), M1 A5-I/O (io), M2 A4-I/O (io), M3 GND (power), M4 I/O (io), M15 I/O (io), M16 GND (power), M17 I/O (io), M18 I/O (io), N1 I/O (io), N2 I/O (io), N3 A3-I/O (io), N4 I/O (io), N15 I/O (io), N16 I/O (io), N17 I/O (io), N18 I/O (io), P1 I/O (io), P2 I/O (io), P3 I/O (io), P4 I/O (io), P15 I/O (io), P16 I/O (io), P17 I/O (io), P18 I/O (io), R1 I/O (io), R2 I/O (io), R3 GND (power), R4 VCC (power), R5 I/O (io), R6 I/O (io), R7 I/O (io), R8 I/O (io), R9 GND (power), R10 VCC (power), R11 I/O (io), R12 I/O (io), R13 I/O (io), R14 I/O (io), R15 VCC (power), R16 VCC (power), R17 I/O (io), R18 I/O (io), T1 I/O (io), T2 A2-CS1-I/O (io), T3 A0-~{WS}-I/O (io), T4 SGCK4-DOUT-I/O (io), T5 I/O (io), T6 I/O (io), T7 GND (power), T8 I/O (io), T9 D3-I/O (io), T10 I/O (io), T11 I/O (io), T12 GND (power), T13 I/O (io), T14 I/O (io), T15 D7-I/O (io), T16 SGCK3-I/O (io), T17 I/O (io), T18 I/O (io), U1 A1-PGCK4-I/O (io), U2 TD0 (io), U3 D0-DIN-I/O (io), U4 I/O (io), U5 I/O (io), U6 I/O (io), U7 I/O (io), U8 I/O (io), U9 ~{R}S-I/O (io), U10 D4-I/O (io), U11 I/O (io), U12 D5-I/O (io), U13 I/O (io), U14 I/O (io), U15 I/O (io), U16 PGCK3-I/O (io), U17 DONE (io), U18 I/O (io), V1 CCLK (io), V2 ~{RCLK}-~{BUSY}/RDY-I/O (io), V3 D1-I/O (io), V4 I/O (io), V5 I/O (io), V6 I/O (io), V7 D2-I/O (io), V8 I/O (io), V9 I/O (io), V10 I/O (io), V11 I/O (io), V12 ~{CS}0-I/O (io), V13 I/O (io), V14 I/O (io), V15 I/O (io), V16 I/O (io), V17 D6-I/O (io), V18 ~{PROG} (in)

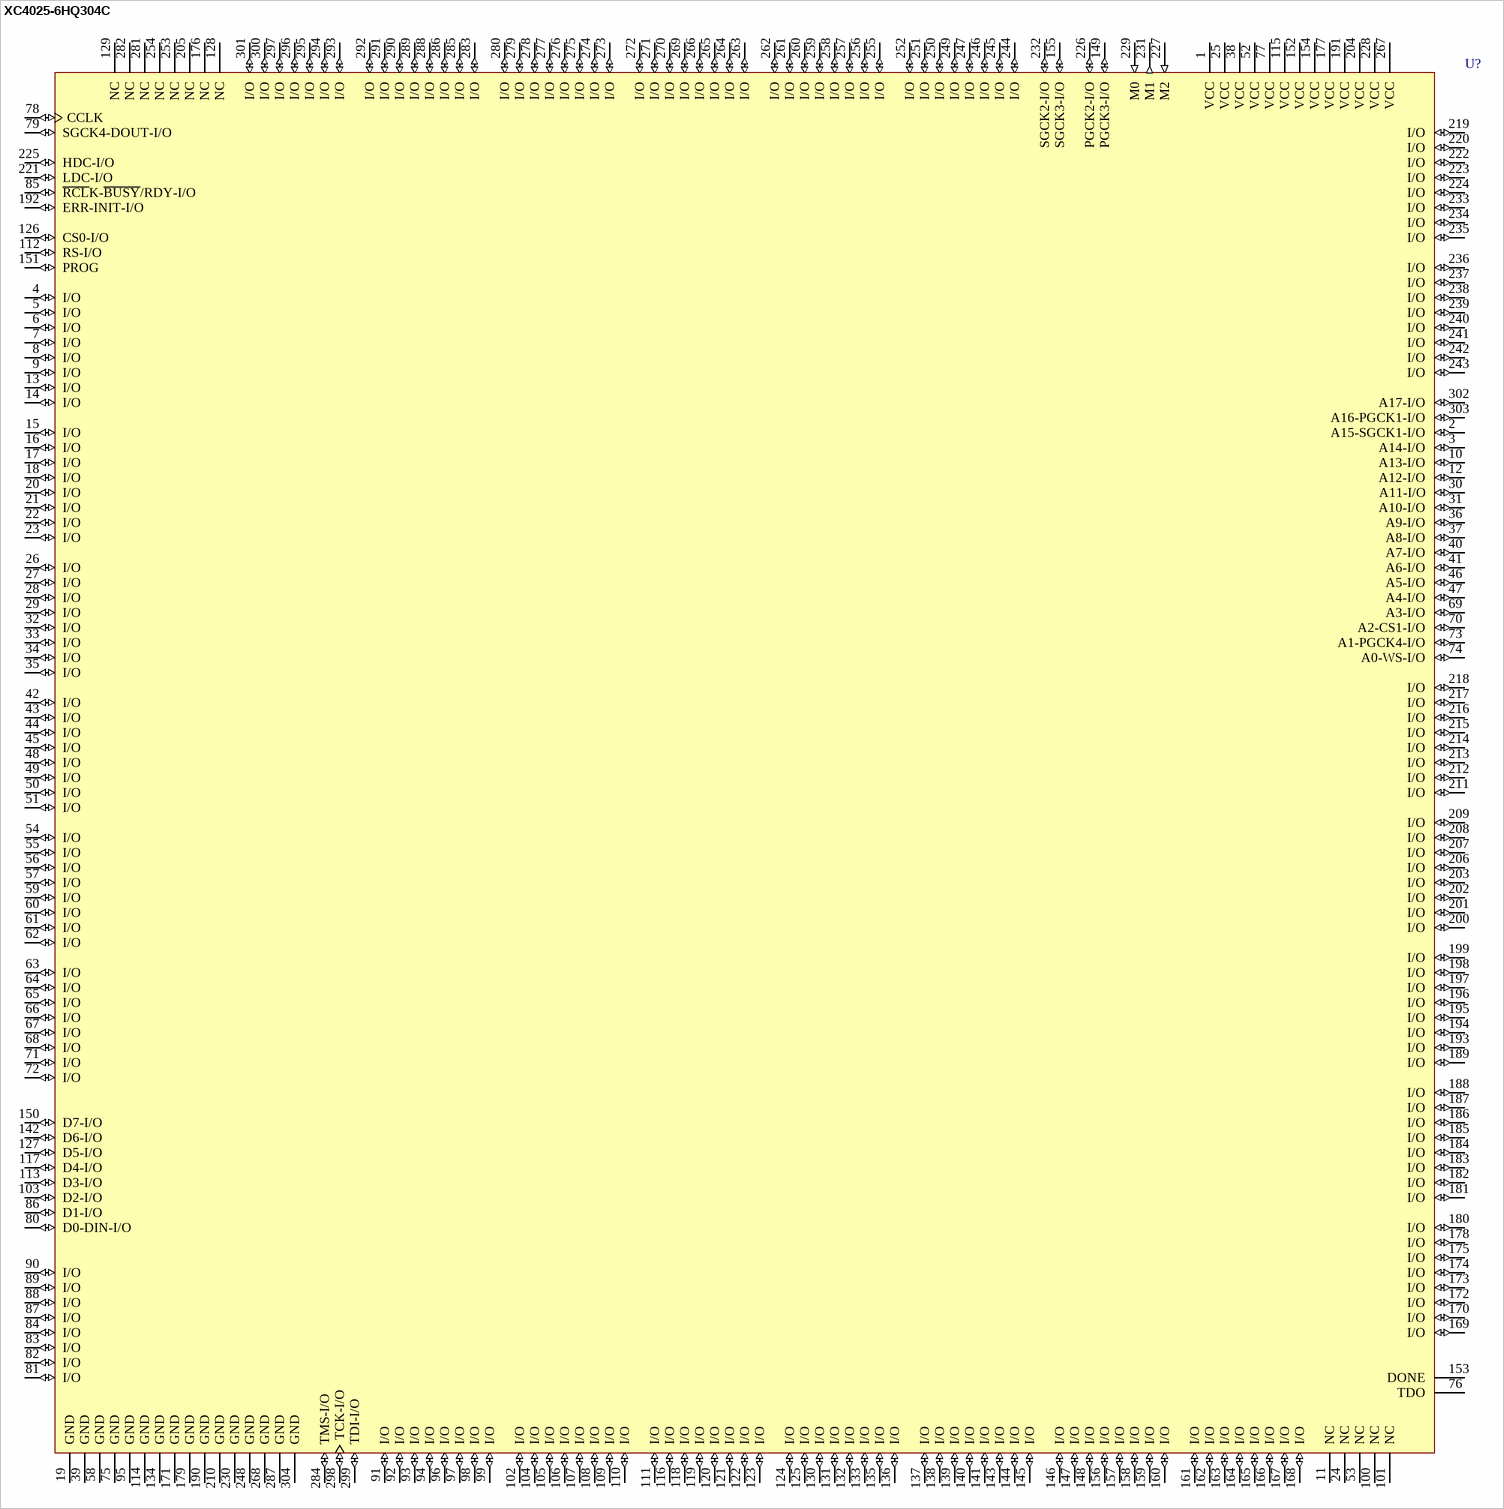
[diagram p225: symbol XC4025-6HQ304C]

## XC4025-6HQ304C
designator U?
Logic Cell Array, with 255 I/O Pins, 304-Pin HQFP, Commercial Grade; ComponentAvailability: Not for New Design; Published: 8-Jun-2000; LatestRevisionDate: 13-Apr-2006; LatestRevisionNote: IPC-7351 Footprint Added.; DatasheetVersion: 1994; PackageVersion: ver1.1, Oct-2002; PackageReference: HQ304; Publisher: Altium Limited; PackageDescription: 304-Pin Heat Sink Quad Flat Pack (HQ304); Code_JEDEC: MO-143-JA; ComponentLink1Description: Manufacturer Link; ComponentLink1URL: http://www.xilinx.com/; ComponentLink2Description: Datasheet; ComponentLink2URL: http://direct.xilinx.com/bvdocs/publications/4000.pdf
footprint HQ304_N (Shrink QFP, 304-Leads, Body 40x40mm, Pitch 0.5mm, IPC Medium Density)
footprint HQ304_L (Shrink QFP, 304-Leads, Body 40x40mm, Pitch 0.5mm, IPC High Density)
footprint HQ304_M (Shrink QFP, 304-Leads, Body 40x40mm, Pitch 0.5mm, IPC Low Density)
3D model XC4025-HQ304 (304-Pin Heat Sink Quad Flat Pack (HQ304))
pins: 1 VCC (power), 2 A15-SGCK1-I/O (io), 3 A14-I/O (io), 4 I/O (io), 5 I/O (io), 6 I/O (io), 7 I/O (io), 8 I/O (io), 9 I/O (io), 10 A13-I/O (io), 11 NC, 12 A12-I/O (io), 13 I/O (io), 14 I/O (io), 15 I/O (io), 16 I/O (io), 17 I/O (io), 18 I/O (io), 19 GND (power), 20 I/O (io), 21 I/O (io), 22 I/O (io), 23 I/O (io), 24 NC, 25 VCC (power), 26 I/O (io), 27 I/O (io), 28 I/O (io), 29 I/O (io), 30 A11-I/O (io), 31 A10-I/O (io), 32 I/O (io), 33 I/O (io), 34 I/O (io), 35 I/O (io), 36 A9-I/O (io), 37 A8-I/O (io), 38 VCC (power), 39 GND (power), 40 A7-I/O (io), 41 A6-I/O (io), 42 I/O (io), 43 I/O (io), 44 I/O (io), 45 I/O (io), 46 A5-I/O (io), 47 A4-I/O (io), 48 I/O (io), 49 I/O (io), 50 I/O (io), 51 I/O (io), 52 VCC (power), 53 NC, 54 I/O (io), 55 I/O (io), 56 I/O (io), 57 I/O (io), 58 GND (power), 59 I/O (io), 60 I/O (io), 61 I/O (io), 62 I/O (io), 63 I/O (io), 64 I/O (io), 65 I/O (io), 66 I/O (io), 67 I/O (io), 68 I/O (io), 69 A3-I/O (io), 70 A2-CS1-I/O (io), 71 I/O (io), 72 I/O (io), 73 A1-PGCK4-I/O (io), 74 A0-WS-I/O (io), 75 GND (power), 76 TDO, 77 VCC (power), 78 CCLK (io), 79 SGCK4-DOUT-I/O (io), 80 D0-DIN-I/O (io), 81 I/O (io), 82 I/O (io), 83 I/O (io), 84 I/O (io), 85 ~{RCL}K-~{BUSY}/RDY-I/O (io), 86 D1-I/O (io), 87 I/O (io), 88 I/O (io), 89 I/O (io), 90 I/O (io), 91 I/O (io), 92 I/O (io), 93 I/O (io), 94 I/O (io), 95 GND (power), 96 I/O (io), 97 I/O (io), 98 I/O (io), 99 I/O (io), 100 NC, 101 NC, 102 I/O (io), 103 D2-I/O (io), 104 I/O (io), 105 I/O (io), 106 I/O (io), 107 I/O (io), 108 I/O (io), 109 I/O (io), 110 I/O (io), 111 I/O (io), 112 RS-I/O (io), 113 D3-I/O (io), 114 GND (power), 115 VCC (power), 116 I/O (io), 117 D4-I/O (io), 118 I/O (io), 119 I/O (io), 120 I/O (io), 121 I/O (io), 122 I/O (io), 123 I/O (io), 124 I/O (io), 125 I/O (io), 126 CS0-I/O (io), 127 D5-I/O (io), 128 NC, 129 NC, 130 I/O (io), 131 I/O (io), 132 I/O (io), 133 I/O (io), 134 GND (power), 135 I/O (io), 136 I/O (io), 137 I/O (io), 138 I/O (io), 139 I/O (io), 140 I/O (io), 141 I/O (io), 142 D6-I/O (io), 143 I/O (io), 144 I/O (io), 145 I/O (io), 146 I/O (io), 147 I/O (io), 148 I/O (io), 149 PGCK3-I/O (io), 150 D7-I/O (io), 151 PROG (io), 152 VCC (power), 153 DONE, 154 VCC (power), 155 SGCK3-I/O (io), 156 I/O (io), 157 I/O (io), 158 I/O (io), 159 I/O (io), 160 I/O (io), 161 I/O (io), 162 I/O (io), 163 I/O (io), 164 I/O (io), 165 I/O (io), 166 I/O (io), 167 I/O (io), 168 I/O (io), 169 I/O (io), 170 I/O (io), 171 GND (power), 172 I/O (io), 173 I/O (io), 174 I/O (io), 175 I/O (io), 176 NC, 177 VCC (power), 178 I/O (io), 179 GND (power), 180 I/O (io), 181 I/O (io), 182 I/O (io), 183 I/O (io), 184 I/O (io), 185 I/O (io), 186 I/O (io), 187 I/O (io), 188 I/O (io), 189 I/O (io), 190 GND (power), 191 VCC (power), 192 ERR-INIT-I/O (io), 193 I/O (io), 194 I/O (io), 195 I/O (io), 196 I/O (io), 197 I/O (io), 198 I/O (io), 199 I/O (io), 200 I/O (io), 201 I/O (io), 202 I/O (io), 203 I/O (io), 204 VCC (power), 205 NC, 206 I/O (io), 207 I/O (io), 208 I/O (io), 209 I/O (io), 210 GND (power), 211 I/O (io), 212 I/O (io), 213 I/O (io), 214 I/O (io), 215 I/O (io), 216 I/O (io), 217 I/O (io), 218 I/O (io), 219 I/O (io), 220 I/O (io), 221 LDC-I/O (io), 222 I/O (io), 223 I/O (io), 224 I/O (io), 225 HDC-I/O (io), 226 PGCK2-I/O (io), 227 M2 (in), 228 VCC (power), 229 M0 (in), 230 GND (power), 231 M1 (out), 232 SGCK2-I/O (io), 233 I/O (io), 234 I/O (io), 235 I/O (io), 236 I/O (io), 237 I/O (io), 238 I/O (io), 239 I/O (io), 240 I/O (io), 241 I/O (io), 242 I/O (io), 243 I/O (io), 244 I/O (io), 245 I/O (io), 246 I/O (io), 247 I/O (io), 248 GND (power), 249 I/O (io), 250 I/O (io), 251 I/O (io), 252 I/O (io), 253 NC, 254 NC, 255 I/O (io), 256 I/O (io), 257 I/O (io), 258 I/O (io), 259 I/O (io), 260 I/O (io), 261 I/O (io), 262 I/O (io), 263 I/O (io), 264 I/O (io), 265 I/O (io), 266 I/O (io), 267 VCC (power), 268 GND (power), 269 I/O (io), 270 I/O (io), 271 I/O (io), 272 I/O (io), 273 I/O (io), 274 I/O (io), 275 I/O (io), 276 I/O (io), 277 I/O (io), 278 I/O (io), 279 I/O (io), 280 I/O (io), 281 NC, 282 NC, 283 I/O (io), 284 TMS-I/O (io), 285 I/O (io), 286 I/O (io), 287 GND (power), 288 I/O (io), 289 I/O (io), 290 I/O (io), 291 I/O (io), 292 I/O (io), 293 I/O (io), 294 I/O (io), 295 I/O (io), 296 I/O (io), 297 I/O (io), 298 TCK-I/O (io), 299 TDI-I/O (io), 300 I/O (io), 301 I/O (io), 302 A17-I/O (io), 303 A16-PGCK1-I/O (io), 304 GND (power)

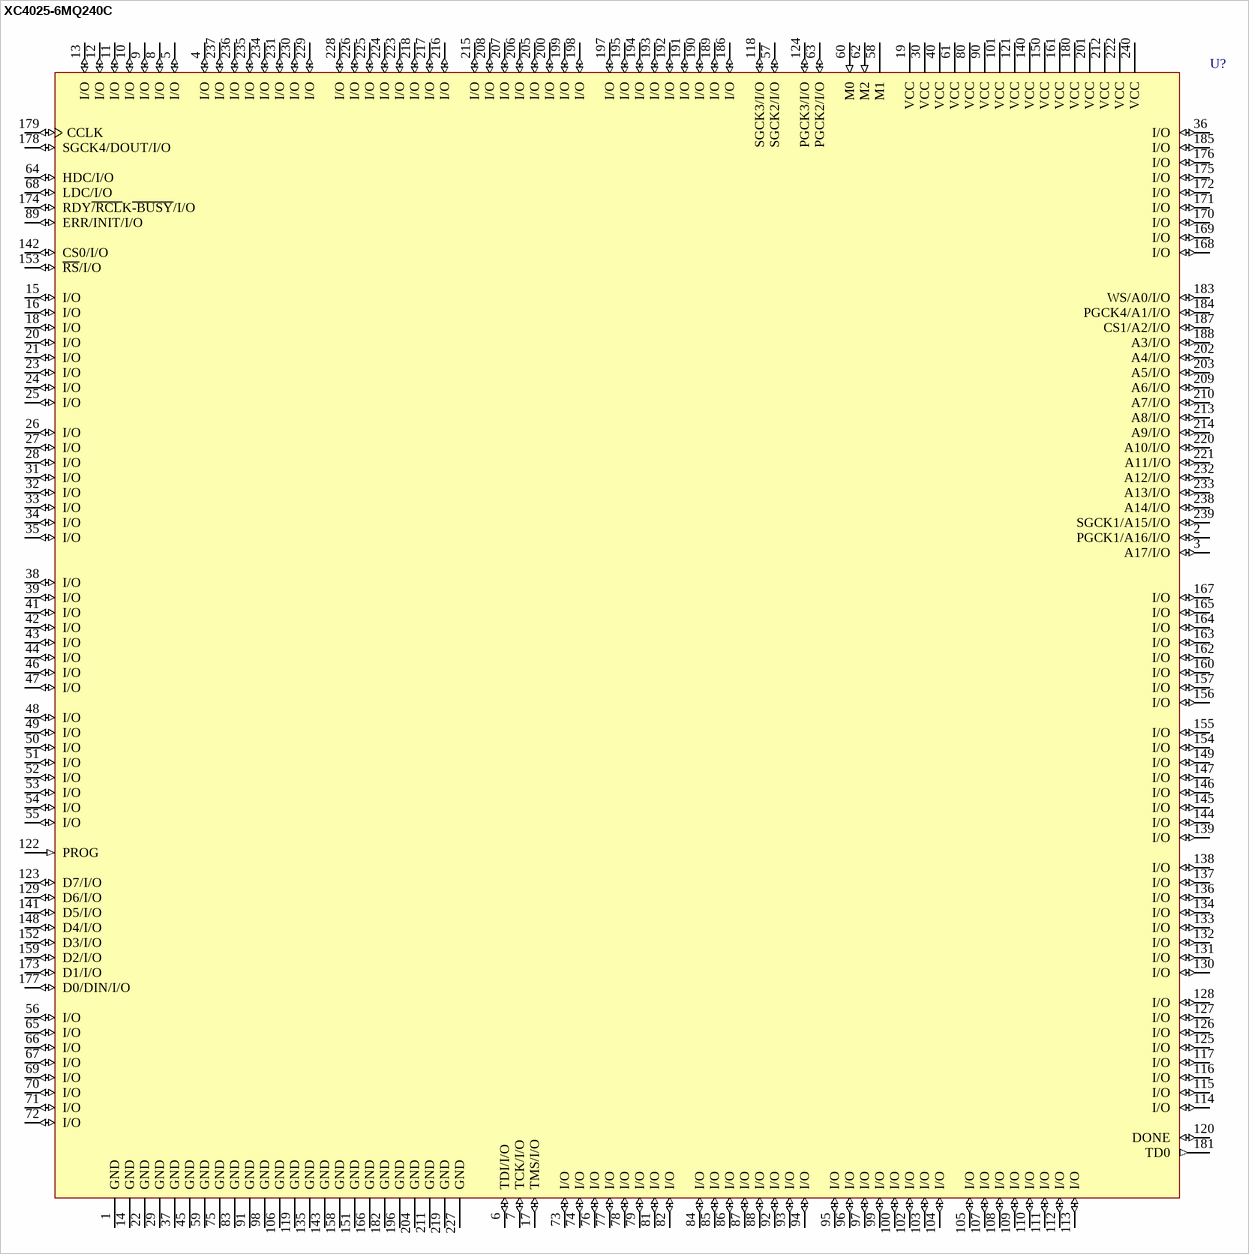
[diagram p226: symbol XC4025-6MQ240C]

## XC4025-6MQ240C
designator U?
Logic Cell Array, with 193 I/O Pins, 240-Pin MQFP, Commercial Grade; ComponentAvailability: Not for New Design; Published: 8-Jun-2000; LatestRevisionDate: 13-Apr-2006; LatestRevisionNote: IPC-7351 Footprint Added.; DatasheetVersion: 1994; PackageVersion: 1994; PackageReference: MQ240; Publisher: Altium Limited; PackageDescription: 240-Pin Metal Quad Flat Pack (MQ240); ComponentLink1Description: Manufacturer Link; ComponentLink1URL: http://www.xilinx.com/; ComponentLink2Description: Datasheet; ComponentLink2URL: http://direct.xilinx.com/bvdocs/publications/4000.pdf
footprint MQ240_N (Shrink QFP, 240-Leads, Body 31.6x31.6mm, Pitch 0.5mm, IPC Medium Density)
footprint MQ240_L (Shrink QFP, 240-Leads, Body 31.6x31.6mm, Pitch 0.5mm, IPC High Density)
footprint MQ240_M (Shrink QFP, 240-Leads, Body 31.6x31.6mm, Pitch 0.5mm, IPC Low Density)
3D model XC4025-MQ240 (240-Pin Metal Quad Flat Pack (MQ240))
pins: 1 GND (power), 2 PGCK1/A16/I/O (io), 3 A17/I/O (io), 4 I/O (io), 5 I/O (io), 6 TDI/I/O (io), 7 TCK/I/O (io), 8 I/O (io), 9 I/O (io), 10 I/O (io), 11 I/O (io), 12 I/O (io), 13 I/O (io), 14 GND (power), 15 I/O (io), 16 I/O (io), 17 TMS/I/O (io), 18 I/O (io), 19 VCC (power), 20 I/O (io), 21 I/O (io), 22 GND (power), 23 I/O (io), 24 I/O (io), 25 I/O (io), 26 I/O (io), 27 I/O (io), 28 I/O (io), 29 GND (power), 30 VCC (power), 31 I/O (io), 32 I/O (io), 33 I/O (io), 34 I/O (io), 35 I/O (io), 36 I/O (io), 37 GND (power), 38 I/O (io), 39 I/O (io), 40 VCC (power), 41 I/O (io), 42 I/O (io), 43 I/O (io), 44 I/O (io), 45 GND (power), 46 I/O (io), 47 I/O (io), 48 I/O (io), 49 I/O (io), 50 I/O (io), 51 I/O (io), 52 I/O (io), 53 I/O (io), 54 I/O (io), 55 I/O (io), 56 I/O (io), 57 SGCK2/I/O (io), 58 M1 (hiz), 59 GND (power), 60 M0 (in), 61 VCC (power), 62 M2 (in), 63 PGCK2/I/O (io), 64 HDC/I/O (io), 65 I/O (io), 66 I/O (io), 67 I/O (io), 68 LDC/I/O (io), 69 I/O (io), 70 I/O (io), 71 I/O (io), 72 I/O (io), 73 I/O (io), 74 I/O (io), 75 GND (power), 76 I/O (io), 77 I/O (io), 78 I/O (io), 79 I/O (io), 80 VCC (power), 81 I/O (io), 82 I/O (io), 83 GND (power), 84 I/O (io), 85 I/O (io), 86 I/O (io), 87 I/O (io), 88 I/O (io), 89 ERR/INIT/I/O (io), 90 VCC (power), 91 GND (power), 92 I/O (io), 93 I/O (io), 94 I/O (io), 95 I/O (io), 96 I/O (io), 97 I/O (io), 98 GND (power), 99 I/O (io), 100 I/O (io), 101 VCC (power), 102 I/O (io), 103 I/O (io), 104 I/O (io), 105 I/O (io), 106 GND (power), 107 I/O (io), 108 I/O (io), 109 I/O (io), 110 I/O (io), 111 I/O (io), 112 I/O (io), 113 I/O (io), 114 I/O (io), 115 I/O (io), 116 I/O (io), 117 I/O (io), 118 SGCK3/I/O (io), 119 GND (power), 120 DONE (io), 121 VCC (power), 122 PROG (in), 123 D7/I/O (io), 124 PGCK3/I/O (io), 125 I/O (io), 126 I/O (io), 127 I/O (io), 128 I/O (io), 129 D6/I/O (io), 130 I/O (io), 131 I/O (io), 132 I/O (io), 133 I/O (io), 134 I/O (io), 135 GND (power), 136 I/O (io), 137 I/O (io), 138 I/O (io), 139 I/O (io), 140 VCC (power), 141 D5/I/O (io), 142 CS0/I/O (io), 143 GND (power), 144 I/O (io), 145 I/O (io), 146 I/O (io), 147 I/O (io), 148 D4/I/O (io), 149 I/O (io), 150 VCC (power), 151 GND (power), 152 D3/I/O (io), 153 ~{RS}/I/O (io), 154 I/O (io), 155 I/O (io), 156 I/O (io), 157 I/O (io), 158 GND (power), 159 D2/I/O (io), 160 I/O (io), 161 VCC (power), 162 I/O (io), 163 I/O (io), 164 I/O (io), 165 I/O (io), 166 GND (power), 167 I/O (io), 168 I/O (io), 169 I/O (io), 170 I/O (io), 171 I/O (io), 172 I/O (io), 173 D1/I/O (io), 174 RDY~{/RCL}K~{-BUSY}/I/O (io), 175 I/O (io), 176 I/O (io), 177 D0/DIN/I/O (io), 178 SGCK4/DOUT/I/O (io), 179 CCLK (io), 180 VCC (power), 181 TD0 (out), 182 GND (power), 183 WS/A0/I/O (io), 184 PGCK4/A1/I/O (io), 185 I/O (io), 186 I/O (io), 187 CS1/A2/I/O (io), 188 A3/I/O (io), 189 I/O (io), 190 I/O (io), 191 I/O (io), 192 I/O (io), 193 I/O (io), 194 I/O (io), 195 I/O (io), 196 GND (power), 197 I/O (io), 198 I/O (io), 199 I/O (io), 200 I/O (io), 201 VCC (power), 202 A4/I/O (io), 203 A5/I/O (io), 204 GND (power), 205 I/O (io), 206 I/O (io), 207 I/O (io), 208 I/O (io), 209 A6/I/O (io), 210 A7/I/O (io), 211 GND (power), 212 VCC (power), 213 A8/I/O (io), 214 A9/I/O (io), 215 I/O (io), 216 I/O (io), 217 I/O (io), 218 I/O (io), 219 GND (power), 220 A10/I/O (io), 221 A11/I/O (io), 222 VCC (power), 223 I/O (io), 224 I/O (io), 225 I/O (io), 226 I/O (io), 227 GND (power), 228 I/O (io), 229 I/O (io), 230 I/O (io), 231 I/O (io), 232 A12/I/O (io), 233 A13/I/O (io), 234 I/O (io), 235 I/O (io), 236 I/O (io), 237 I/O (io), 238 A14/I/O (io), 239 SGCK1/A15/I/O (io), 240 VCC (power)

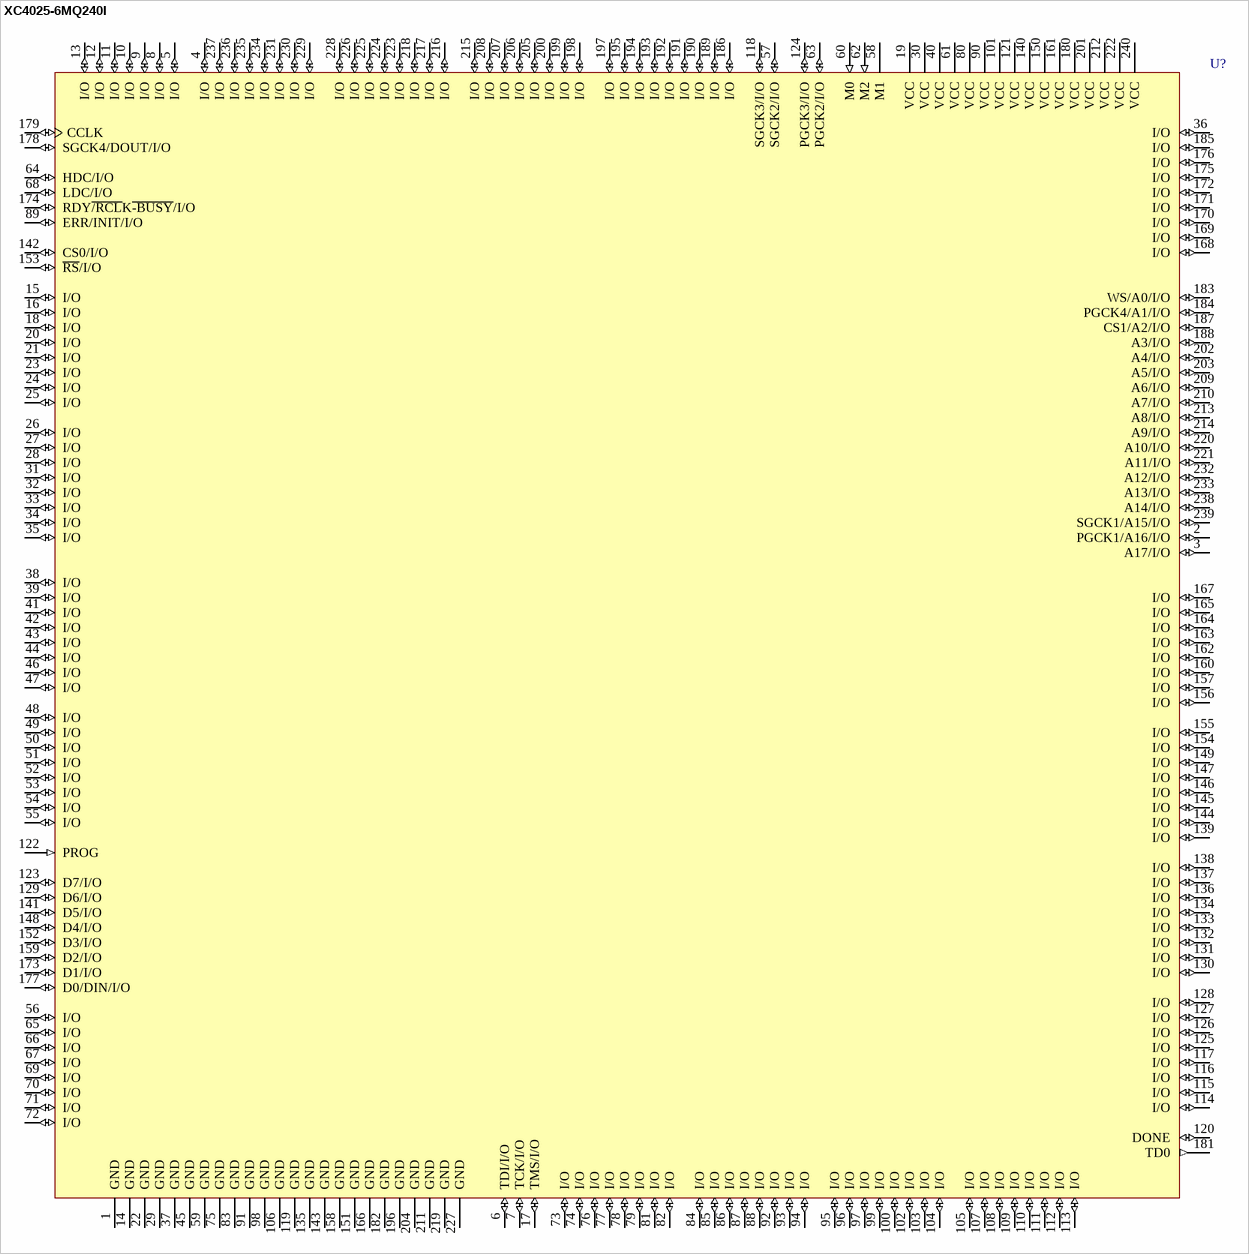
[diagram p227: symbol XC4025-6MQ240I]

## XC4025-6MQ240I
designator U?
Logic Cell Array, with 193 I/O Pins, 240-Pin MQFP, Industrial Grade; ComponentAvailability: Not for New Design; Published: 8-Jun-2000; LatestRevisionDate: 13-Apr-2006; LatestRevisionNote: IPC-7351 Footprint Added.; DatasheetVersion: 1994; PackageVersion: 1994; PackageReference: MQ240; Publisher: Altium Limited; PackageDescription: 240-Pin Metal Quad Flat Pack (MQ240); ComponentLink1Description: Manufacturer Link; ComponentLink1URL: http://www.xilinx.com/; ComponentLink2Description: Datasheet; ComponentLink2URL: http://direct.xilinx.com/bvdocs/publications/4000.pdf
footprint MQ240_N (Shrink QFP, 240-Leads, Body 31.6x31.6mm, Pitch 0.5mm, IPC Medium Density)
footprint MQ240_L (Shrink QFP, 240-Leads, Body 31.6x31.6mm, Pitch 0.5mm, IPC High Density)
footprint MQ240_M (Shrink QFP, 240-Leads, Body 31.6x31.6mm, Pitch 0.5mm, IPC Low Density)
3D model XC4025-MQ240 (240-Pin Metal Quad Flat Pack (MQ240))
pins: 1 GND (power), 2 PGCK1/A16/I/O (io), 3 A17/I/O (io), 4 I/O (io), 5 I/O (io), 6 TDI/I/O (io), 7 TCK/I/O (io), 8 I/O (io), 9 I/O (io), 10 I/O (io), 11 I/O (io), 12 I/O (io), 13 I/O (io), 14 GND (power), 15 I/O (io), 16 I/O (io), 17 TMS/I/O (io), 18 I/O (io), 19 VCC (power), 20 I/O (io), 21 I/O (io), 22 GND (power), 23 I/O (io), 24 I/O (io), 25 I/O (io), 26 I/O (io), 27 I/O (io), 28 I/O (io), 29 GND (power), 30 VCC (power), 31 I/O (io), 32 I/O (io), 33 I/O (io), 34 I/O (io), 35 I/O (io), 36 I/O (io), 37 GND (power), 38 I/O (io), 39 I/O (io), 40 VCC (power), 41 I/O (io), 42 I/O (io), 43 I/O (io), 44 I/O (io), 45 GND (power), 46 I/O (io), 47 I/O (io), 48 I/O (io), 49 I/O (io), 50 I/O (io), 51 I/O (io), 52 I/O (io), 53 I/O (io), 54 I/O (io), 55 I/O (io), 56 I/O (io), 57 SGCK2/I/O (io), 58 M1 (hiz), 59 GND (power), 60 M0 (in), 61 VCC (power), 62 M2 (in), 63 PGCK2/I/O (io), 64 HDC/I/O (io), 65 I/O (io), 66 I/O (io), 67 I/O (io), 68 LDC/I/O (io), 69 I/O (io), 70 I/O (io), 71 I/O (io), 72 I/O (io), 73 I/O (io), 74 I/O (io), 75 GND (power), 76 I/O (io), 77 I/O (io), 78 I/O (io), 79 I/O (io), 80 VCC (power), 81 I/O (io), 82 I/O (io), 83 GND (power), 84 I/O (io), 85 I/O (io), 86 I/O (io), 87 I/O (io), 88 I/O (io), 89 ERR/INIT/I/O (io), 90 VCC (power), 91 GND (power), 92 I/O (io), 93 I/O (io), 94 I/O (io), 95 I/O (io), 96 I/O (io), 97 I/O (io), 98 GND (power), 99 I/O (io), 100 I/O (io), 101 VCC (power), 102 I/O (io), 103 I/O (io), 104 I/O (io), 105 I/O (io), 106 GND (power), 107 I/O (io), 108 I/O (io), 109 I/O (io), 110 I/O (io), 111 I/O (io), 112 I/O (io), 113 I/O (io), 114 I/O (io), 115 I/O (io), 116 I/O (io), 117 I/O (io), 118 SGCK3/I/O (io), 119 GND (power), 120 DONE (io), 121 VCC (power), 122 PROG (in), 123 D7/I/O (io), 124 PGCK3/I/O (io), 125 I/O (io), 126 I/O (io), 127 I/O (io), 128 I/O (io), 129 D6/I/O (io), 130 I/O (io), 131 I/O (io), 132 I/O (io), 133 I/O (io), 134 I/O (io), 135 GND (power), 136 I/O (io), 137 I/O (io), 138 I/O (io), 139 I/O (io), 140 VCC (power), 141 D5/I/O (io), 142 CS0/I/O (io), 143 GND (power), 144 I/O (io), 145 I/O (io), 146 I/O (io), 147 I/O (io), 148 D4/I/O (io), 149 I/O (io), 150 VCC (power), 151 GND (power), 152 D3/I/O (io), 153 ~{RS}/I/O (io), 154 I/O (io), 155 I/O (io), 156 I/O (io), 157 I/O (io), 158 GND (power), 159 D2/I/O (io), 160 I/O (io), 161 VCC (power), 162 I/O (io), 163 I/O (io), 164 I/O (io), 165 I/O (io), 166 GND (power), 167 I/O (io), 168 I/O (io), 169 I/O (io), 170 I/O (io), 171 I/O (io), 172 I/O (io), 173 D1/I/O (io), 174 RDY~{/RCL}K~{-BUSY}/I/O (io), 175 I/O (io), 176 I/O (io), 177 D0/DIN/I/O (io), 178 SGCK4/DOUT/I/O (io), 179 CCLK (io), 180 VCC (power), 181 TD0 (out), 182 GND (power), 183 WS/A0/I/O (io), 184 PGCK4/A1/I/O (io), 185 I/O (io), 186 I/O (io), 187 CS1/A2/I/O (io), 188 A3/I/O (io), 189 I/O (io), 190 I/O (io), 191 I/O (io), 192 I/O (io), 193 I/O (io), 194 I/O (io), 195 I/O (io), 196 GND (power), 197 I/O (io), 198 I/O (io), 199 I/O (io), 200 I/O (io), 201 VCC (power), 202 A4/I/O (io), 203 A5/I/O (io), 204 GND (power), 205 I/O (io), 206 I/O (io), 207 I/O (io), 208 I/O (io), 209 A6/I/O (io), 210 A7/I/O (io), 211 GND (power), 212 VCC (power), 213 A8/I/O (io), 214 A9/I/O (io), 215 I/O (io), 216 I/O (io), 217 I/O (io), 218 I/O (io), 219 GND (power), 220 A10/I/O (io), 221 A11/I/O (io), 222 VCC (power), 223 I/O (io), 224 I/O (io), 225 I/O (io), 226 I/O (io), 227 GND (power), 228 I/O (io), 229 I/O (io), 230 I/O (io), 231 I/O (io), 232 A12/I/O (io), 233 A13/I/O (io), 234 I/O (io), 235 I/O (io), 236 I/O (io), 237 I/O (io), 238 A14/I/O (io), 239 SGCK1/A15/I/O (io), 240 VCC (power)

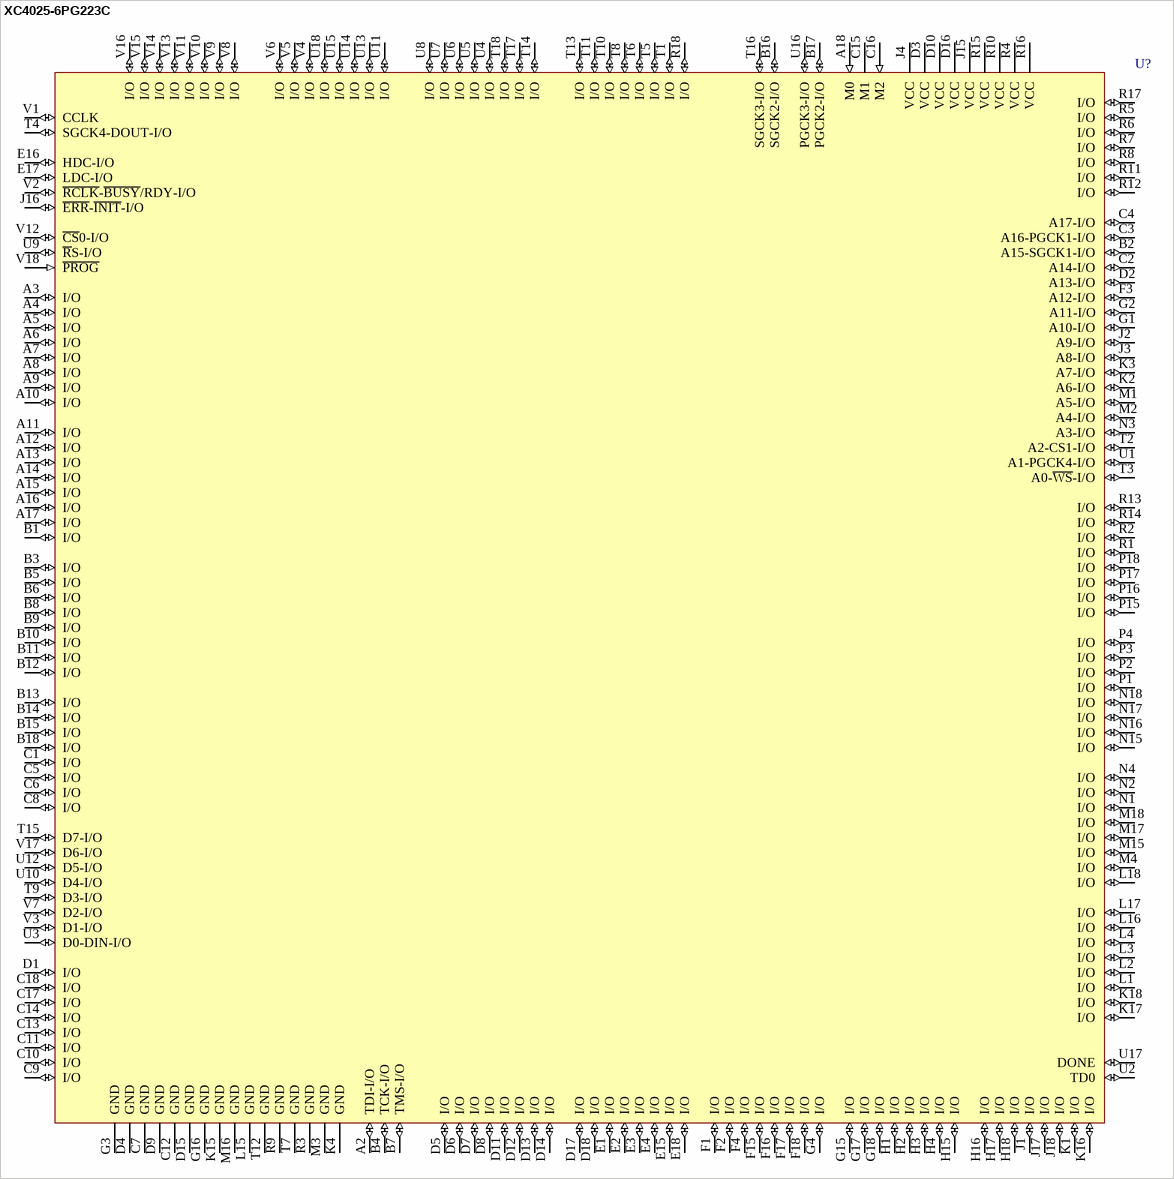
[diagram p228: symbol XC4025-6PG223C]

## XC4025-6PG223C
designator U?
Logic Cell Array, with 192 I/O Pins, 223-Pin PGA, Commercial Grade; ComponentAvailability: Not for New Design; Published: 8-Jun-2000; LatestRevisionDate: 04-Mar-2005; LatestRevisionNote: Stylized 3D Model Added.; DatasheetVersion: 1994; PackageVersion: ver1.0, Jun-2000; PackageReference: PG223; Publisher: Altium Limited; PackageDescription: 223-Pin Ceramic Pin Grid Array (PG223); ComponentLink1Description: Manufacturer Link; ComponentLink1URL: http://www.xilinx.com/; ComponentLink2Description: Datasheet; ComponentLink2URL: http://direct.xilinx.com/bvdocs/publications/4000.pdf
footprint PG223 (PGA, 223-Leads, Body 47x47mm, Pitch 2.54mm)
3D model XC4025-PG223 (223-Pin Ceramic Pin Grid Array (PG223))
pins: A2 TDI-I/O (io), A3 I/O (io), A4 I/O (io), A5 I/O (io), A6 I/O (io), A7 I/O (io), A8 I/O (io), A9 I/O (io), A10 I/O (io), A11 I/O (io), A12 I/O (io), A13 I/O (io), A14 I/O (io), A15 I/O (io), A16 I/O (io), A17 I/O (io), A18 M0 (in), B1 I/O (io), B2 A15-SGCK1-I/O (io), B3 I/O (io), B4 TCK-I/O (io), B5 I/O (io), B6 I/O (io), B7 TMS-I/O (io), B8 I/O (io), B9 I/O (io), B10 I/O (io), B11 I/O (io), B12 I/O (io), B13 I/O (io), B14 I/O (io), B15 I/O (io), B16 SGCK2-I/O (io), B17 PGCK2-I/O (io), B18 I/O (io), C1 I/O (io), C2 A14-I/O (io), C3 A16-PGCK1-I/O (io), C4 A17-I/O (io), C5 I/O (io), C6 I/O (io), C7 GND (power), C8 I/O (io), C9 I/O (io), C10 I/O (io), C11 I/O (io), C12 GND (power), C13 I/O (io), C14 I/O (io), C15 M1 (hiz), C16 M2 (in), C17 I/O (io), C18 I/O (io), D1 I/O (io), D2 A13-I/O (io), D3 VCC (power), D4 GND (power), D5 I/O (io), D6 I/O (io), D7 I/O (io), D8 I/O (io), D9 GND (power), D10 VCC (power), D11 I/O (io), D12 I/O (io), D13 I/O (io), D14 I/O (io), D15 GND (power), D16 VCC (power), D17 I/O (io), D18 I/O (io), E1 I/O (io), E2 I/O (io), E3 I/O (io), E4 I/O (io), E15 I/O (io), E16 HDC-I/O (io), E17 LDC-I/O (io), E18 I/O (io), F1 I/O (io), F2 I/O (io), F3 A12-I/O (io), F4 I/O (io), F15 I/O (io), F16 I/O (io), F17 I/O (io), F18 I/O (io), G1 A10-I/O (io), G2 A11-I/O (io), G3 GND (power), G4 I/O (io), G15 I/O (io), G16 GND (power), G17 I/O (io), G18 I/O (io), H1 I/O (io), H2 I/O (io), H3 I/O (io), H4 I/O (io), H15 I/O (io), H16 I/O (io), H17 I/O (io), H18 I/O (io), J1 I/O (io), J2 A9-I/O (io), J3 A8-I/O (io), J4 VCC (power), J15 VCC (power), J16 ~{ERR}-~{INIT}-I/O (io), J17 I/O (io), J18 I/O (io), K1 I/O (io), K2 A6-I/O (io), K3 A7-I/O (io), K4 GND (power), K15 GND (power), K16 I/O (io), K17 I/O (io), K18 I/O (io), L1 I/O (io), L2 I/O (io), L3 I/O (io), L4 I/O (io), L15 GND (power), L16 I/O (io), L17 I/O (io), L18 I/O (io), M1 A5-I/O (io), M2 A4-I/O (io), M3 GND (power), M4 I/O (io), M15 I/O (io), M16 GND (power), M17 I/O (io), M18 I/O (io), N1 I/O (io), N2 I/O (io), N3 A3-I/O (io), N4 I/O (io), N15 I/O (io), N16 I/O (io), N17 I/O (io), N18 I/O (io), P1 I/O (io), P2 I/O (io), P3 I/O (io), P4 I/O (io), P15 I/O (io), P16 I/O (io), P17 I/O (io), P18 I/O (io), R1 I/O (io), R2 I/O (io), R3 GND (power), R4 VCC (power), R5 I/O (io), R6 I/O (io), R7 I/O (io), R8 I/O (io), R9 GND (power), R10 VCC (power), R11 I/O (io), R12 I/O (io), R13 I/O (io), R14 I/O (io), R15 VCC (power), R16 VCC (power), R17 I/O (io), R18 I/O (io), T1 I/O (io), T2 A2-CS1-I/O (io), T3 A0-~{WS}-I/O (io), T4 SGCK4-DOUT-I/O (io), T5 I/O (io), T6 I/O (io), T7 GND (power), T8 I/O (io), T9 D3-I/O (io), T10 I/O (io), T11 I/O (io), T12 GND (power), T13 I/O (io), T14 I/O (io), T15 D7-I/O (io), T16 SGCK3-I/O (io), T17 I/O (io), T18 I/O (io), U1 A1-PGCK4-I/O (io), U2 TD0 (io), U3 D0-DIN-I/O (io), U4 I/O (io), U5 I/O (io), U6 I/O (io), U7 I/O (io), U8 I/O (io), U9 ~{R}S-I/O (io), U10 D4-I/O (io), U11 I/O (io), U12 D5-I/O (io), U13 I/O (io), U14 I/O (io), U15 I/O (io), U16 PGCK3-I/O (io), U17 DONE (io), U18 I/O (io), V1 CCLK (io), V2 ~{RCLK}-~{BUSY}/RDY-I/O (io), V3 D1-I/O (io), V4 I/O (io), V5 I/O (io), V6 I/O (io), V7 D2-I/O (io), V8 I/O (io), V9 I/O (io), V10 I/O (io), V11 I/O (io), V12 ~{CS}0-I/O (io), V13 I/O (io), V14 I/O (io), V15 I/O (io), V16 I/O (io), V17 D6-I/O (io), V18 ~{PROG} (in)

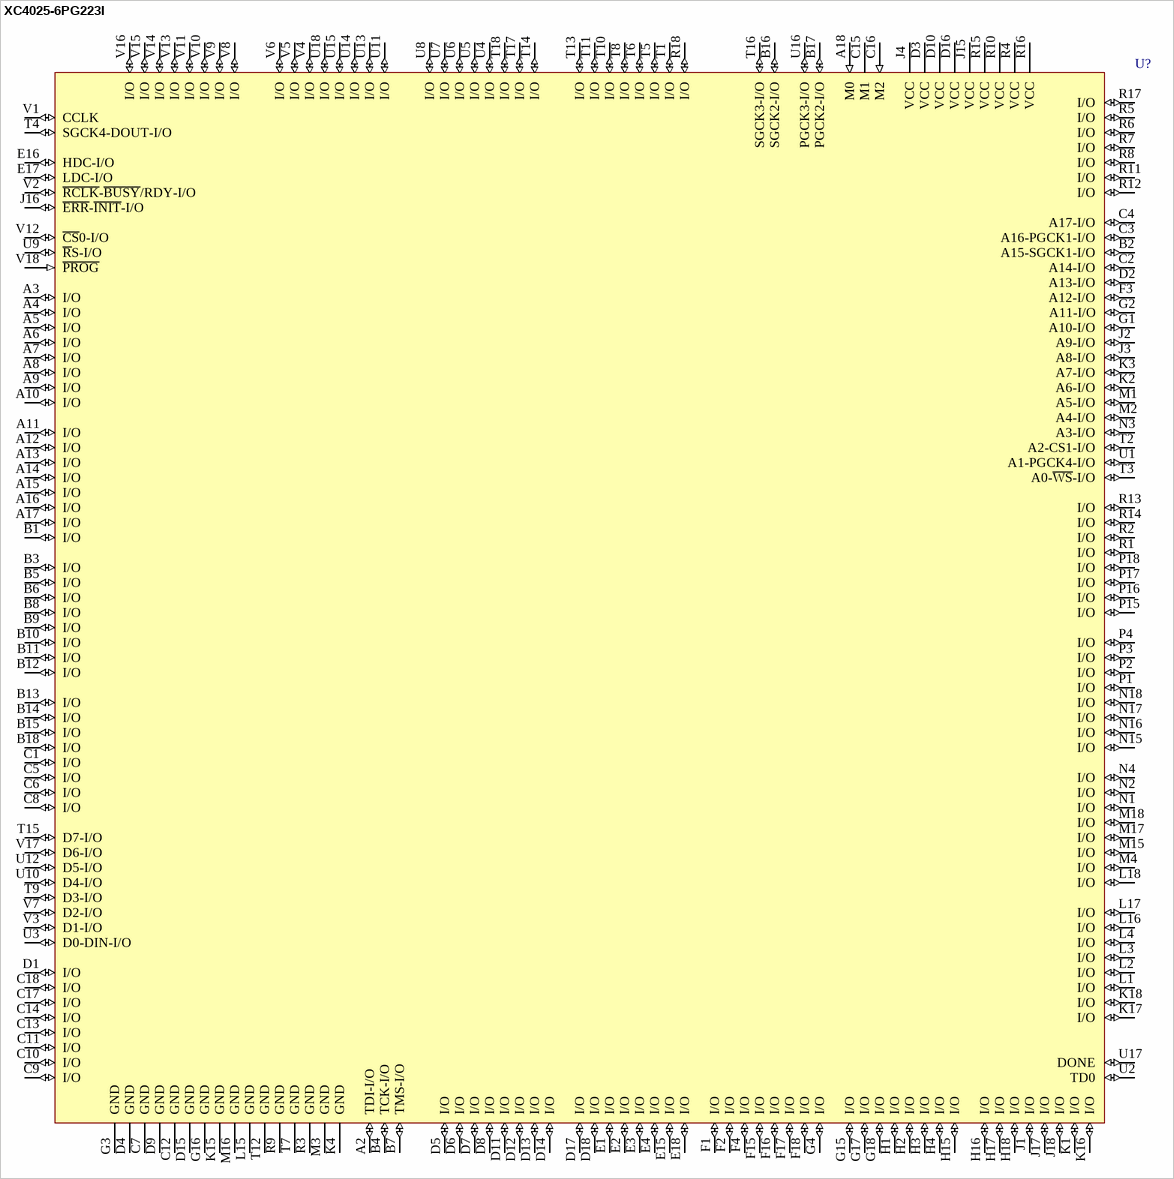
[diagram p229: symbol XC4025-6PG223I]

## XC4025-6PG223I
designator U?
Logic Cell Array, with 192 I/O Pins, 223-Pin PGA, Industrial Grade; ComponentAvailability: Not for New Design; Published: 8-Jun-2000; LatestRevisionDate: 04-Mar-2005; LatestRevisionNote: Stylized 3D Model Added.; DatasheetVersion: 1994; PackageVersion: ver1.0, Jun-2000; PackageReference: PG223; Publisher: Altium Limited; PackageDescription: 223-Pin Ceramic Pin Grid Array (PG223); ComponentLink1Description: Manufacturer Link; ComponentLink1URL: http://www.xilinx.com/; ComponentLink2Description: Datasheet; ComponentLink2URL: http://direct.xilinx.com/bvdocs/publications/4000.pdf
footprint PG223 (PGA, 223-Leads, Body 47x47mm, Pitch 2.54mm)
3D model XC4025-PG223 (223-Pin Ceramic Pin Grid Array (PG223))
pins: A2 TDI-I/O (io), A3 I/O (io), A4 I/O (io), A5 I/O (io), A6 I/O (io), A7 I/O (io), A8 I/O (io), A9 I/O (io), A10 I/O (io), A11 I/O (io), A12 I/O (io), A13 I/O (io), A14 I/O (io), A15 I/O (io), A16 I/O (io), A17 I/O (io), A18 M0 (in), B1 I/O (io), B2 A15-SGCK1-I/O (io), B3 I/O (io), B4 TCK-I/O (io), B5 I/O (io), B6 I/O (io), B7 TMS-I/O (io), B8 I/O (io), B9 I/O (io), B10 I/O (io), B11 I/O (io), B12 I/O (io), B13 I/O (io), B14 I/O (io), B15 I/O (io), B16 SGCK2-I/O (io), B17 PGCK2-I/O (io), B18 I/O (io), C1 I/O (io), C2 A14-I/O (io), C3 A16-PGCK1-I/O (io), C4 A17-I/O (io), C5 I/O (io), C6 I/O (io), C7 GND (power), C8 I/O (io), C9 I/O (io), C10 I/O (io), C11 I/O (io), C12 GND (power), C13 I/O (io), C14 I/O (io), C15 M1 (hiz), C16 M2 (in), C17 I/O (io), C18 I/O (io), D1 I/O (io), D2 A13-I/O (io), D3 VCC (power), D4 GND (power), D5 I/O (io), D6 I/O (io), D7 I/O (io), D8 I/O (io), D9 GND (power), D10 VCC (power), D11 I/O (io), D12 I/O (io), D13 I/O (io), D14 I/O (io), D15 GND (power), D16 VCC (power), D17 I/O (io), D18 I/O (io), E1 I/O (io), E2 I/O (io), E3 I/O (io), E4 I/O (io), E15 I/O (io), E16 HDC-I/O (io), E17 LDC-I/O (io), E18 I/O (io), F1 I/O (io), F2 I/O (io), F3 A12-I/O (io), F4 I/O (io), F15 I/O (io), F16 I/O (io), F17 I/O (io), F18 I/O (io), G1 A10-I/O (io), G2 A11-I/O (io), G3 GND (power), G4 I/O (io), G15 I/O (io), G16 GND (power), G17 I/O (io), G18 I/O (io), H1 I/O (io), H2 I/O (io), H3 I/O (io), H4 I/O (io), H15 I/O (io), H16 I/O (io), H17 I/O (io), H18 I/O (io), J1 I/O (io), J2 A9-I/O (io), J3 A8-I/O (io), J4 VCC (power), J15 VCC (power), J16 ~{ERR}-~{INIT}-I/O (io), J17 I/O (io), J18 I/O (io), K1 I/O (io), K2 A6-I/O (io), K3 A7-I/O (io), K4 GND (power), K15 GND (power), K16 I/O (io), K17 I/O (io), K18 I/O (io), L1 I/O (io), L2 I/O (io), L3 I/O (io), L4 I/O (io), L15 GND (power), L16 I/O (io), L17 I/O (io), L18 I/O (io), M1 A5-I/O (io), M2 A4-I/O (io), M3 GND (power), M4 I/O (io), M15 I/O (io), M16 GND (power), M17 I/O (io), M18 I/O (io), N1 I/O (io), N2 I/O (io), N3 A3-I/O (io), N4 I/O (io), N15 I/O (io), N16 I/O (io), N17 I/O (io), N18 I/O (io), P1 I/O (io), P2 I/O (io), P3 I/O (io), P4 I/O (io), P15 I/O (io), P16 I/O (io), P17 I/O (io), P18 I/O (io), R1 I/O (io), R2 I/O (io), R3 GND (power), R4 VCC (power), R5 I/O (io), R6 I/O (io), R7 I/O (io), R8 I/O (io), R9 GND (power), R10 VCC (power), R11 I/O (io), R12 I/O (io), R13 I/O (io), R14 I/O (io), R15 VCC (power), R16 VCC (power), R17 I/O (io), R18 I/O (io), T1 I/O (io), T2 A2-CS1-I/O (io), T3 A0-~{WS}-I/O (io), T4 SGCK4-DOUT-I/O (io), T5 I/O (io), T6 I/O (io), T7 GND (power), T8 I/O (io), T9 D3-I/O (io), T10 I/O (io), T11 I/O (io), T12 GND (power), T13 I/O (io), T14 I/O (io), T15 D7-I/O (io), T16 SGCK3-I/O (io), T17 I/O (io), T18 I/O (io), U1 A1-PGCK4-I/O (io), U2 TD0 (io), U3 D0-DIN-I/O (io), U4 I/O (io), U5 I/O (io), U6 I/O (io), U7 I/O (io), U8 I/O (io), U9 ~{R}S-I/O (io), U10 D4-I/O (io), U11 I/O (io), U12 D5-I/O (io), U13 I/O (io), U14 I/O (io), U15 I/O (io), U16 PGCK3-I/O (io), U17 DONE (io), U18 I/O (io), V1 CCLK (io), V2 ~{RCLK}-~{BUSY}/RDY-I/O (io), V3 D1-I/O (io), V4 I/O (io), V5 I/O (io), V6 I/O (io), V7 D2-I/O (io), V8 I/O (io), V9 I/O (io), V10 I/O (io), V11 I/O (io), V12 ~{CS}0-I/O (io), V13 I/O (io), V14 I/O (io), V15 I/O (io), V16 I/O (io), V17 D6-I/O (io), V18 ~{PROG} (in)